# Altium schematic symbol library MY.SchLib: 184 symbols
Pins are listed as number, name and electrical type; pins without a type are passive.

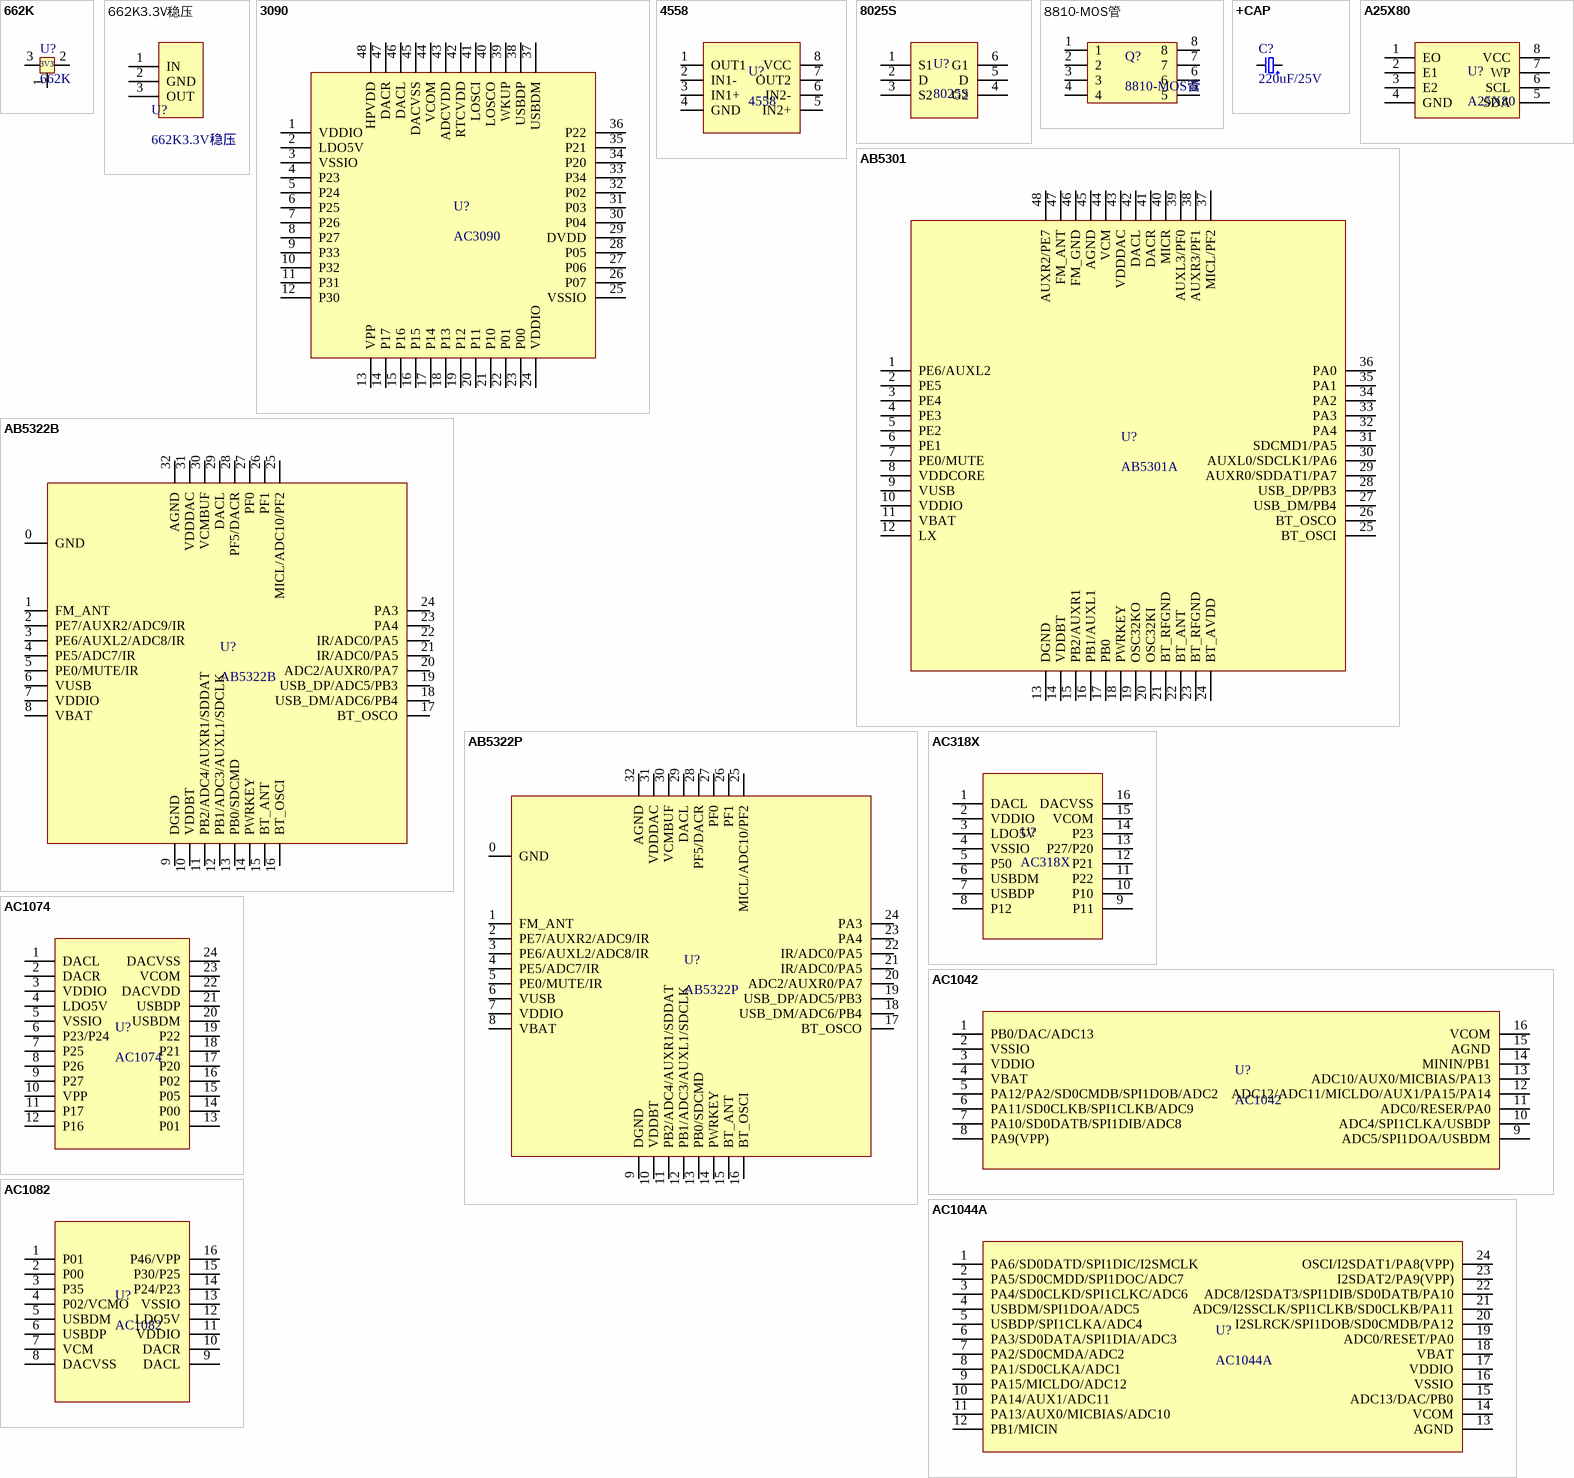
[diagram p0: symbols 662K to AC1082]

## 662K
designator U?
footprint SOT23
pins: 1, 2, 3
text: 3V3

## 662K3.3V稳压
designator U?
footprint SOT23
footprint SOT23
pins: 1 IN, 2 GND, 3 OUT

## 3090
designator U?, comment AC3090
footprint 3090
pins: 1 VDDIO, 2 LDO5V, 3 VSSIO, 4 P23, 5 P24, 6 P25, 7 P26, 8 P27, 9 P33, 10 P32, 11 P31, 12 P30, 13 VPP, 14 P17, 15 P16, 16 P15, 17 P14, 18 P13, 19 P12, 20 P11, 21 P10, 22 P01, 23 P00, 24 VDDIO, 25 VSSIO, 26 P07, 27 P06, 28 P05, 29 DVDD, 30 P04, 31 P03, 32 P02, 33 P34, 34 P20, 35 P21, 36 P22, 37 USBDM, 38 USBDP, 39 WKUP, 40 LOSCO, 41 LOSCI, 42 RTCVDD, 43 ADCVDD, 44 VCOM, 45 DACVSS, 46 DACL, 47 DACR, 48 HPVDD

## 4558
designator U?
footprint SOP8*5.588
footprint SOP8*6.725
footprint SOP8*5.588
pins: 1 OUT1, 2 IN1-, 3 IN1+, 4 GND, 5 IN2+, 6 IN2-, 7 OUT2, 8 VCC

## 8025S
designator U?
pins: 1 S1, 2 D, 3 S2, 4 G2, 5 D, 6 G1

## 8810-MOS管
designator Q?
pins: 1, 2, 3, 4, 5, 6, 7, 8

## +CAP
designator C?, comment 220uF/25V
footprint EC2.5-6.3
footprint EC2.5-6.3
footprint EC2.5-6.3
pins: 1, 2

## A25X80
designator U?
footprint A25X80
pins: 1 EO, 2 E1, 3 E2, 4 GND, 5 SDA, 6 SCL, 7 WP, 8 VCC

## AB5301
designator U?, comment AB5301A
footprint QFN48
pins: 1 PE6/AUXL2, 2 PE5, 3 PE4, 4 PE3, 5 PE2, 6 PE1, 7 PE0/MUTE, 8 VDDCORE, 9 VUSB, 10 VDDIO, 11 VBAT, 12 LX, 13 DGND, 14 VDDBT, 15 PB2/AUXR1, 16 PB1/AUXL1, 17 PB0, 18 PWRKEY, 19 OSC32KO, 20 OSC32KI, 21 BT_RFGND, 22 BT_ANT, 23 BT_RFGND, 24 BT_AVDD, 25 BT_OSCI, 26 BT_OSCO, 27 USB_DM/PB4, 28 USB_DP/PB3, 29 AUXR0/SDDAT1/PA7, 30 AUXL0/SDCLK1/PA6, 31 SDCMD1/PA5, 32 PA4, 33 PA3, 34 PA2, 35 PA1, 36 PA0, 37 MICL/PF2, 38 AUXR3/PF1, 39 AUXL3/PF0, 40 MICR, 41 DACR, 42 DACL, 43 VDDDAC, 44 VCM, 45 AGND, 46 FM_GND, 47 FM_ANT, 48 AUXR2/PE7

## AB5322B
designator U?
footprint QFN32
pins: 0 GND, 1 FM_ANT, 2 PE7/AUXR2/ADC9/IR, 3 PE6/AUXL2/ADC8/IR, 4 PE5/ADC7/IR, 5 PE0/MUTE/IR, 6 VUSB, 7 VDDIO, 8 VBAT, 9 DGND, 10 VDDBT, 11 PB2/ADC4/AUXR1/SDDAT, 12 PB1/ADC3/AUXL1/SDCLK, 13 PB0/SDCMD, 14 PWRKEY, 15 BT_ANT, 16 BT_OSCI, 17 BT_OSCO, 18 USB_DM/ADC6/PB4, 19 USB_DP/ADC5/PB3, 20 ADC2/AUXR0/PA7, 21 IR/ADC0/PA5, 22 IR/ADC0/PA5, 23 PA4, 24 PA3, 25 MICL/ADC10/PF2, 26 PF1, 27 PF0, 28 PF5/DACR, 29 DACL, 30 VCMBUF, 31 VDDDAC, 32 AGND

## AB5322P
designator U?
footprint QFN32
pins: 0 GND, 1 FM_ANT, 2 PE7/AUXR2/ADC9/IR, 3 PE6/AUXL2/ADC8/IR, 4 PE5/ADC7/IR, 5 PE0/MUTE/IR, 6 VUSB, 7 VDDIO, 8 VBAT, 9 DGND, 10 VDDBT, 11 PB2/ADC4/AUXR1/SDDAT, 12 PB1/ADC3/AUXL1/SDCLK, 13 PB0/SDCMD, 14 PWRKEY, 15 BT_ANT, 16 BT_OSCI, 17 BT_OSCO, 18 USB_DM/ADC6/PB4, 19 USB_DP/ADC5/PB3, 20 ADC2/AUXR0/PA7, 21 IR/ADC0/PA5, 22 IR/ADC0/PA5, 23 PA4, 24 PA3, 25 MICL/ADC10/PF2, 26 PF1, 27 PF0, 28 PF5/DACR, 29 DACL, 30 VCMBUF, 31 VDDDAC, 32 AGND

## AC318X
designator U?
footprint SOP16
pins: 1 DACL, 2 VDDIO, 3 LDO5V, 4 VSSIO, 5 P50, 6 USBDM, 7 USBDP, 8 P12, 9 P11, 10 P10, 11 P22, 12 P21, 13 P27/P20, 14 P23, 15 VCOM, 16 DACVSS

## AC1042
designator U?
footprint SOP16
pins: 1 PB0/DAC/ADC13, 2 VSSIO, 3 VDDIO, 4 VBAT, 5 PA12/PA2/SD0CMDB/SPI1DOB/ADC2, 6 PA11/SD0CLKB/SPI1CLKB/ADC9, 7 PA10/SD0DATB/SPI1DIB/ADC8, 8 PA9(VPP), 9 ADC5/SPI1DOA/USBDM, 10 ADC4/SPI1CLKA/USBDP, 11 ADC0/RESER/PA0, 12 ADC12/ADC11/MICLDO/AUX1/PA15/PA14, 13 ADC10/AUX0/MICBIAS/PA13, 14 MININ/PB1, 15 AGND, 16 VCOM

## AC1044A
designator U?
footprint SOP24
pins: 1 PA6/SD0DATD/SPI1DIC/I2SMCLK, 2 PA5/SD0CMDD/SPI1DOC/ADC7, 3 PA4/SD0CLKD/SPI1CLKC/ADC6, 4 USBDM/SPI1DOA/ADC5, 5 USBDP/SPI1CLKA/ADC4, 6 PA3/SD0DATA/SPI1DIA/ADC3, 7 PA2/SD0CMDA/ADC2, 8 PA1/SD0CLKA/ADC1, 9 PA15/MICLDO/ADC12, 10 PA14/AUX1/ADC11, 11 PA13/AUX0/MICBIAS/ADC10, 12 PB1/MICIN, 13 AGND, 14 VCOM, 15 ADC13/DAC/PB0, 16 VSSIO, 17 VDDIO, 18 VBAT, 19 ADC0/RESET/PA0, 20 I2SLRCK/SPI1DOB/SD0CMDB/PA12, 21 ADC9/I2SSCLK/SPI1CLKB/SD0CLKB/PA11, 22 ADC8/I2SDAT3/SPI1DIB/SD0DATB/PA10, 23 I2SDAT2/PA9(VPP), 24 OSCI/I2SDAT1/PA8(VPP)

## AC1074
designator U?
footprint SSOP24
pins: 1 DACL, 2 DACR, 3 VDDIO, 4 LDO5V, 5 VSSIO, 6 P23/P24, 7 P25, 8 P26, 9 P27, 10 VPP, 11 P17, 12 P16, 13 P01, 14 P00, 15 P05, 16 P02, 17 P20, 18 P21, 19 P22, 20 USBDM, 21 USBDP, 22 DACVDD, 23 VCOM, 24 DACVSS

## AC1082
designator U?
footprint SOP16
pins: 1 P01, 2 P00, 3 P35, 4 P02/VCMO, 5 USBDM, 6 USBDP, 7 VCM, 8 DACVSS, 9 DACL, 10 DACR, 11 VDDIO, 12 LDO5V, 13 VSSIO, 14 P24/P23, 15 P30/P25, 16 P46/VPP

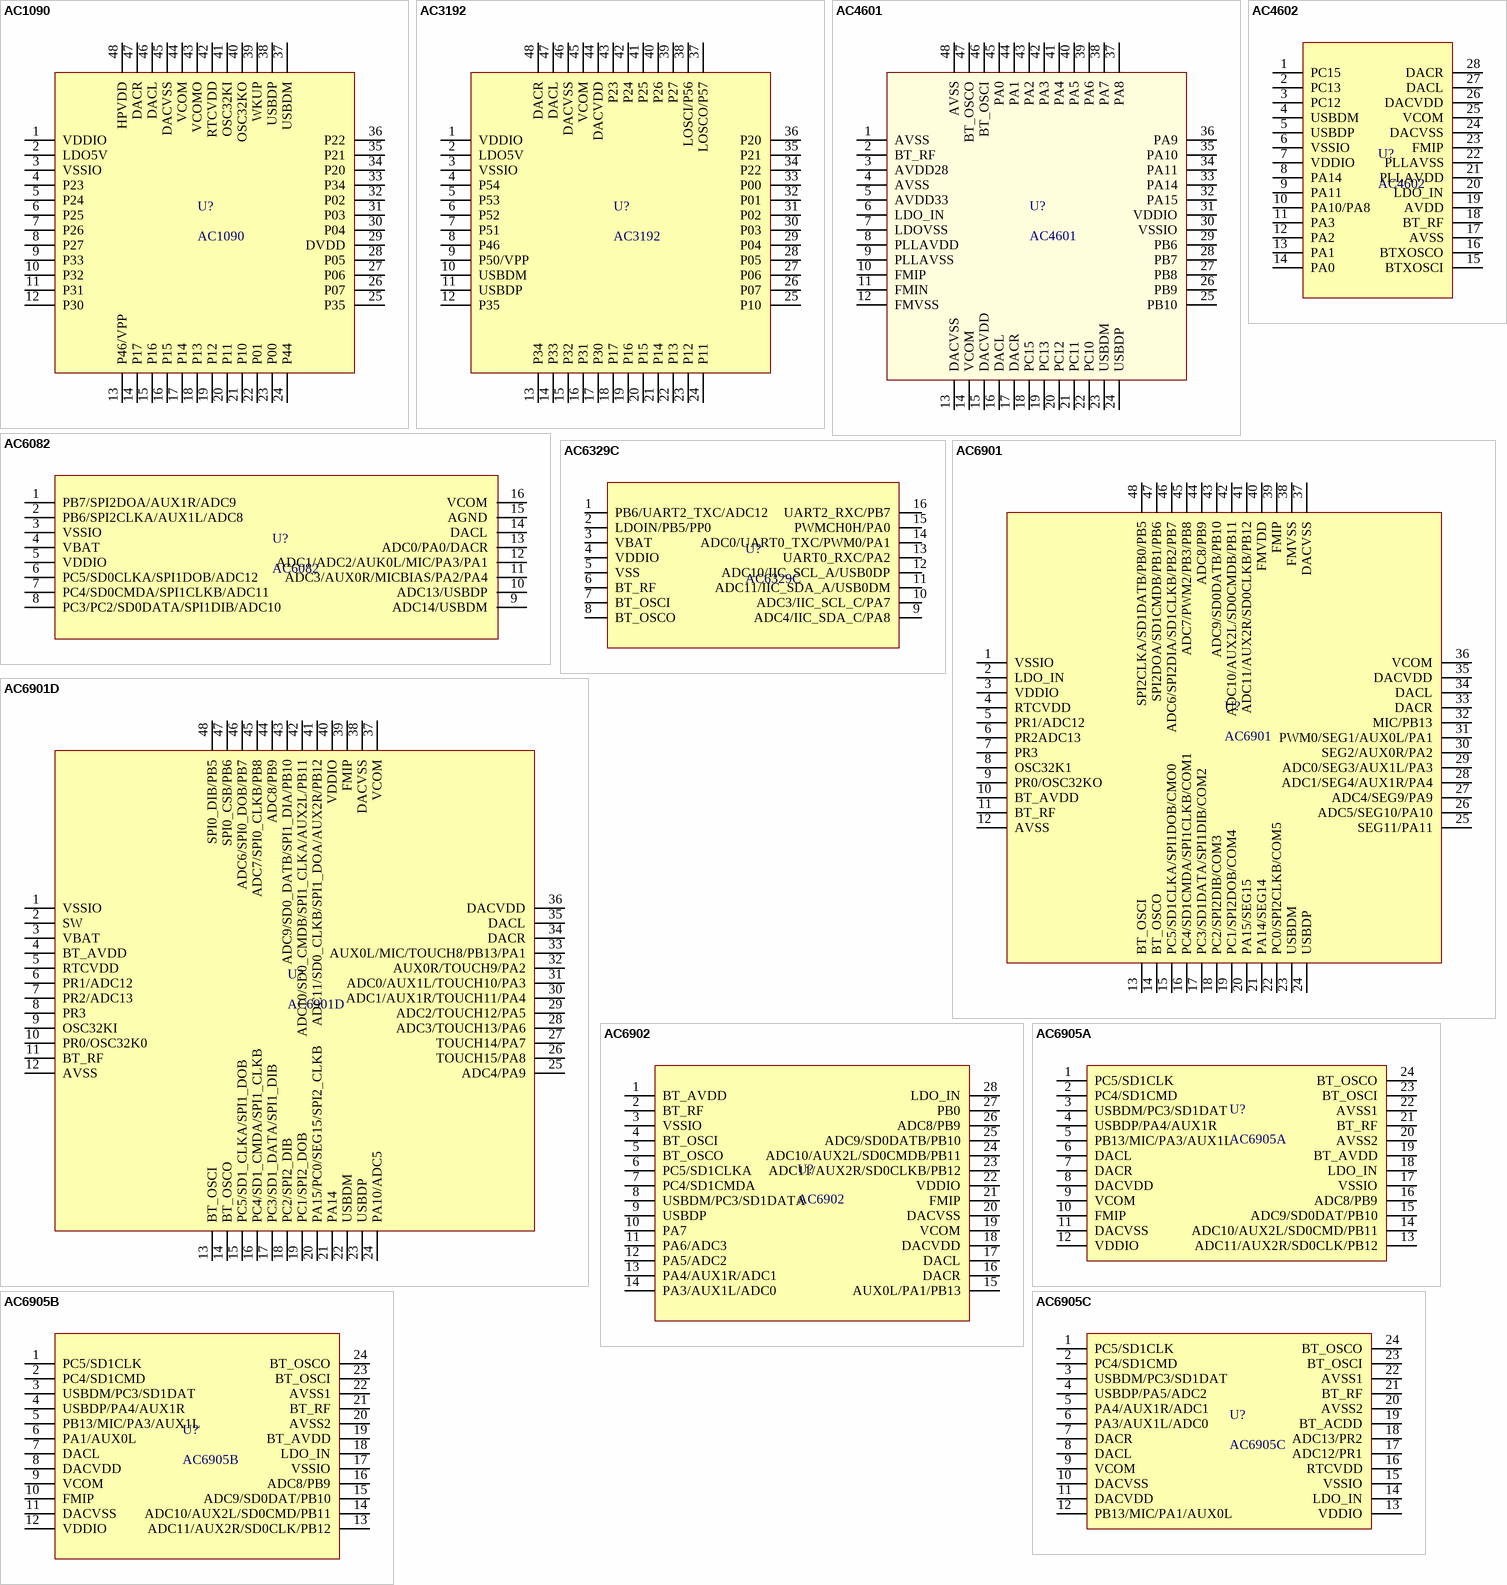
[diagram p1: symbols AC1090 to AC6905C]

## AC1090
designator U?
footprint QFN48
pins: 1 VDDIO, 2 LDO5V, 3 VSSIO, 4 P23, 5 P24, 6 P25, 7 P26, 8 P27, 9 P33, 10 P32, 11 P31, 12 P30, 13 P46/VPP, 14 P17, 15 P16, 16 P15, 17 P14, 18 P13, 19 P12, 20 P11, 21 P10, 22 P01, 23 P00, 24 P44, 25 P35, 26 P07, 27 P06, 28 P05, 29 DVDD, 30 P04, 31 P03, 32 P02, 33 P34, 34 P20, 35 P21, 36 P22, 37 USBDM, 38 USBDP, 39 WKUP, 40 OSC32KO, 41 OSC32KI, 42 RTCVDD, 43 VCOMO, 44 VCOM, 45 DACVSS, 46 DACL, 47 DACR, 48 HPVDD

## AC3192
designator U?
footprint QFN48
pins: 1 VDDIO, 2 LDO5V, 3 VSSIO, 4 P54, 5 P53, 6 P52, 7 P51, 8 P46, 9 P50/VPP, 10 USBDM, 11 USBDP, 12 P35, 13 P34, 14 P33, 15 P32, 16 P31, 17 P30, 18 P17, 19 P16, 20 P15, 21 P14, 22 P13, 23 P12, 24 P11, 25 P10, 26 P07, 27 P06, 28 P05, 29 P04, 30 P03, 31 P02, 32 P01, 33 P00, 34 P22, 35 P21, 36 P20, 37 LOSCO/P57, 38 LOSCI/P56, 39 P27, 40 P26, 41 P25, 42 P24, 43 P23, 44 DACVDD, 45 VCOM, 46 DACVSS, 47 DACL, 48 DACR

## AC4601
designator U?
footprint QFN48
footprint LQFP48
pins: 1 AVSS, 2 BT_RF, 3 AVDD28, 4 AVSS, 5 AVDD33, 6 LDO_IN, 7 LDOVSS, 8 PLLAVDD, 9 PLLAVSS, 10 FMIP, 11 FMIN, 12 FMVSS, 13 DACVSS, 14 VCOM, 15 DACVDD, 16 DACL, 17 DACR, 18 PC15, 19 PC13, 20 PC12, 21 PC11, 22 PC10, 23 USBDM, 24 USBDP, 25 PB10, 26 PB9, 27 PB8, 28 PB7, 29 PB6, 30 VSSIO, 31 VDDIO, 32 PA15, 33 PA14, 34 PA11, 35 PA10, 36 PA9, 37 PA8, 38 PA7, 39 PA6, 40 PA5, 41 PA4, 42 PA3, 43 PA2, 44 PA1, 45 PA0, 46 BT_OSCI, 47 BT_OSCO, 48 AVSS

## AC4602
designator U?
footprint SOP28
pins: 1 PC15, 2 PC13, 3 PC12, 4 USBDM, 5 USBDP, 6 VSSIO, 7 VDDIO, 8 PA14, 9 PA11, 10 PA10/PA8, 11 PA3, 12 PA2, 13 PA1, 14 PA0, 15 BTXOSCI, 16 BTXOSCO, 17 AVSS, 18 BT_RF, 19 AVDD, 20 LDO_IN, 21 PLLAVDD, 22 PLLAVSS, 23 FMIP, 24 DACVSS, 25 VCOM, 26 DACVDD, 27 DACL, 28 DACR

## AC6082
designator U?
footprint SOP16
pins: 1 PB7/SPI2DOA/AUX1R/ADC9, 2 PB6/SPI2CLKA/AUX1L/ADC8, 3 VSSIO, 4 VBAT, 5 VDDIO, 6 PC5/SD0CLKA/SPI1DOB/ADC12, 7 PC4/SD0CMDA/SPI1CLKB/ADC11, 8 PC3/PC2/SD0DATA/SPI1DIB/ADC10, 9 ADC14/USBDM, 10 ADC13/USBDP, 11 ADC3/AUX0R/MICBIAS/PA2/PA4, 12 ADC1/ADC2/AUK0L/MIC/PA3/PA1, 13 ADC0/PA0/DACR, 14 DACL, 15 AGND, 16 VCOM

## AC6329C
designator U?
footprint SOP16
pins: 1 PB6/UART2_TXC/ADC12, 2 LDOIN/PB5/PP0, 3 VBAT, 4 VDDIO, 5 VSS, 6 BT_RF, 7 BT_OSCI, 8 BT_OSCO, 9 ADC4/IIC_SDA_C/PA8, 10 ADC3/IIC_SCL_C/PA7, 11 ADC11/IIC_SDA_A/USB0DM, 12 ADC10/IIC_SCL_A/USB0DP, 13 UART0_RXC/PA2, 14 ADC0/UART0_TXC/PWM0/PA1, 15 PWMCH0H/PA0, 16 UART2_RXC/PB7

## AC6901
designator U?
footprint LQFP48
pins: 1 VSSIO, 2 LDO_IN, 3 VDDIO, 4 RTCVDD, 5 PR1/ADC12, 6 PR2ADC13, 7 PR3, 8 OSC32K1, 9 PR0/OSC32KO, 10 BT_AVDD, 11 BT_RF, 12 AVSS, 13 BT_OSCI, 14 BT_OSCO, 15 PC5/SD1CLKA/SPI1DOB/CMO0, 16 PC4/SD1CMDA/SPI1CLKB/COM1, 17 PC3/SD1DATA/SPI1DIB/COM2, 18 PC2/SPI2DIB/COM3, 19 PC1/SPI2DOB/COM4, 20 PA15/SEG15, 21 PA14/SEG14, 22 PC0/SPI2CLKB/COM5, 23 USBDM, 24 USBDP, 25 SEG11/PA11, 26 ADC5/SEG10/PA10, 27 ADC4/SEG9/PA9, 28 ADC1/SEG4/AUX1R/PA4, 29 ADC0/SEG3/AUX1L/PA3, 30 SEG2/AUX0R/PA2, 31 PWM0/SEG1/AUX0L/PA1, 32 MIC/PB13, 33 DACR, 34 DACL, 35 DACVDD, 36 VCOM, 37 DACVSS, 38 FMVSS, 39 FMIP, 40 FMVDD, 41 ADC11/AUX2R/SD0CLKB/PB12, 42 ADC10/AUX2L/SD0CMDB/PB11, 43 ADC9/SD0DATB/PB10, 44 ADC8/PB9, 45 ADC7/PWM2/PB3/PB8, 46 ADC6/SPI2DIA/SD1CLKB/PB2/PB7, 47 SPI2DOA/SD1CMDB/PB1/PB6, 48 SPI2CLKA/SD1DATB/PB0/PB5

## AC6901D
designator U?
footprint LQFP48
pins: 1 VSSIO, 2 SW, 3 VBAT, 4 BT_AVDD, 5 RTCVDD, 6 PR1/ADC12, 7 PR2/ADC13, 8 PR3, 9 OSC32KI, 10 PR0/OSC32K0, 11 BT_RF, 12 AVSS, 13 BT_OSCI, 14 BT_OSCO, 15 PC5/SD1_CLKA/SPI1_DOB, 16 PC4/SD1_CMDA/SPI1_CLKB, 17 PC3/SD1_DATA/SPI1_DIB, 18 PC2/SPI2_DIB, 19 PC1/SPI2_DOB, 20 PA15/PC0/SEG15/SPI2_CLKB, 21 PA14, 22 USBDM, 23 USBDP, 24 PA10/ADC5, 25 ADC4/PA9, 26 TOUCH15/PA8, 27 TOUCH14/PA7, 28 ADC3/TOUCH13/PA6, 29 ADC2/TOUCH12/PA5, 30 ADC1/AUX1R/TOUCH11/PA4, 31 ADC0/AUX1L/TOUCH10/PA3, 32 AUX0R/TOUCH9/PA2, 33 AUX0L/MIC/TOUCH8/PB13/PA1, 34 DACR, 35 DACL, 36 DACVDD, 37 VCOM, 38 DACVSS, 39 FMIP, 40 VDDIO, 41 ADC11/SD0_CLKB/SPI1_DOA/AUX2R/PB12, 42 ADC10/SD0_CMDB/SPI1_CLKA/AUX2L/PB11, 43 ADC9/SD0_DATB/SPI1_DIA/PB10, 44 ADC8/PB9, 45 ADC7/SPI0_CLKB/PB8, 46 ADC6/SPI0_DOB/PB7, 47 SPI0_CSB/PB6, 48 SPI0_DIB/PB5

## AC6902
designator U?
footprint SSOP28
footprint SOP28
pins: 1 BT_AVDD, 2 BT_RF, 3 VSSIO, 4 BT_OSCI, 5 BT_OSCO, 6 PC5/SD1CLKA, 7 PC4/SD1CMDA, 8 USBDM/PC3/SD1DATA, 9 USBDP, 10 PA7, 11 PA6/ADC3, 12 PA5/ADC2, 13 PA4/AUX1R/ADC1, 14 PA3/AUX1L/ADC0, 15 AUX0L/PA1/PB13, 16 DACR, 17 DACL, 18 DACVDD, 19 VCOM, 20 DACVSS, 21 FMIP, 22 VDDIO, 23 ADC11/AUX2R/SD0CLKB/PB12, 24 ADC10/AUX2L/SD0CMDB/PB11, 25 ADC9/SD0DATB/PB10, 26 ADC8/PB9, 27 PB0, 28 LDO_IN

## AC6905A
designator U?
pins: 1 PC5/SD1CLK, 2 PC4/SD1CMD, 3 USBDM/PC3/SD1DAT, 4 USBDP/PA4/AUX1R, 5 PB13/MIC/PA3/AUX1L, 6 DACL, 7 DACR, 8 DACVDD, 9 VCOM, 10 FMIP, 11 DACVSS, 12 VDDIO, 13 ADC11/AUX2R/SD0CLK/PB12, 14 ADC10/AUX2L/SD0CMD/PB11, 15 ADC9/SD0DAT/PB10, 16 ADC8/PB9, 17 VSSIO, 18 LDO_IN, 19 BT_AVDD, 20 AVSS2, 21 BT_RF, 22 AVSS1, 23 BT_OSCI, 24 BT_OSCO

## AC6905B
designator U?
footprint SOP24
pins: 1 PC5/SD1CLK, 2 PC4/SD1CMD, 3 USBDM/PC3/SD1DAT, 4 USBDP/PA4/AUX1R, 5 PB13/MIC/PA3/AUX1L, 6 PA1/AUX0L, 7 DACL, 8 DACVDD, 9 VCOM, 10 FMIP, 11 DACVSS, 12 VDDIO, 13 ADC11/AUX2R/SD0CLK/PB12, 14 ADC10/AUX2L/SD0CMD/PB11, 15 ADC9/SD0DAT/PB10, 16 ADC8/PB9, 17 VSSIO, 18 LDO_IN, 19 BT_AVDD, 20 AVSS2, 21 BT_RF, 22 AVSS1, 23 BT_OSCI, 24 BT_OSCO

## AC6905C
designator U?
footprint QSOP24
pins: 1 PC5/SD1CLK, 2 PC4/SD1CMD, 3 USBDM/PC3/SD1DAT, 4 USBDP/PA5/ADC2, 5 PA4/AUX1R/ADC1, 6 PA3/AUX1L/ADC0, 7 DACR, 8 DACL, 9 VCOM, 10 DACVSS, 11 DACVDD, 12 PB13/MIC/PA1/AUX0L, 13 VDDIO, 14 LDO_IN, 15 VSSIO, 16 RTCVDD, 17 ADC12/PR1, 18 ADC13/PR2, 19 BT_ACDD, 20 AVSS2, 21 BT_RF, 22 AVSS1, 23 BT_OSCI, 24 BT_OSCO

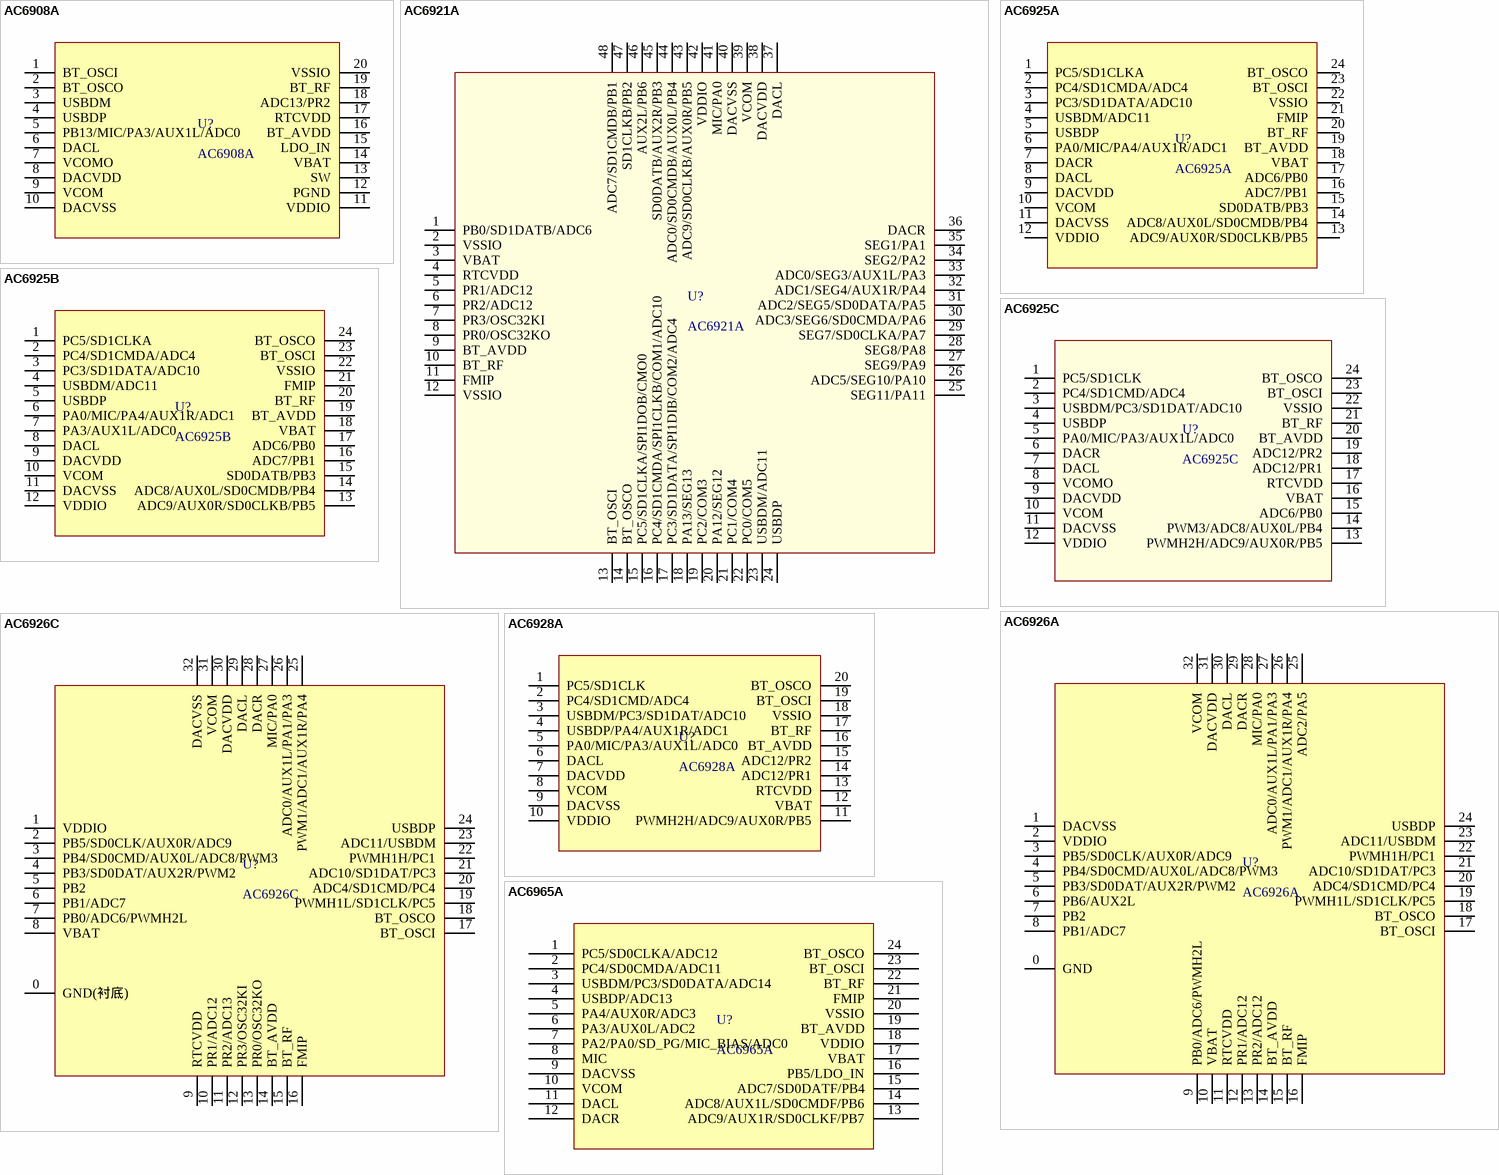
[diagram p2: symbols AC6908A to AC6965A]

## AC6908A
designator U?
footprint SOP20
pins: 1 BT_OSCI, 2 BT_OSCO, 3 USBDM, 4 USBDP, 5 PB13/MIC/PA3/AUX1L/ADC0, 6 DACL, 7 VCOMO, 8 DACVDD, 9 VCOM, 10 DACVSS, 11 VDDIO, 12 PGND, 13 SW, 14 VBAT, 15 LDO_IN, 16 BT_AVDD, 17 RTCVDD, 18 ADC13/PR2, 19 BT_RF, 20 VSSIO

## AC6921A
designator U?
footprint LQFP48
pins: 1 PB0/SD1DATB/ADC6, 2 VSSIO, 3 VBAT, 4 RTCVDD, 5 PR1/ADC12, 6 PR2/ADC12, 7 PR3/OSC32KI, 8 PR0/OSC32KO, 9 BT_AVDD, 10 BT_RF, 11 FMIP, 12 VSSIO, 13 BT_OSCI, 14 BT_OSCO, 15 PC5/SD1CLKA/SPI1DOB/CMO0, 16 PC4/SD1CMDA/SPI1CLKB/COM1/ADC10, 17 PC3/SD1DATA/SPI1DIB/COM2/ADC4, 18 PA13/SEG13, 19 PC2/COM3, 20 PA12/SEG12, 21 PC1/COM4, 22 PC0/COM5, 23 USBDM/ADC11, 24 USBDP, 25 SEG11/PA11, 26 ADC5/SEG10/PA10, 27 SEG9/PA9, 28 SEG8/PA8, 29 SEG7/SD0CLKA/PA7, 30 ADC3/SEG6/SD0CMDA/PA6, 31 ADC2/SEG5/SD0DATA/PA5, 32 ADC1/SEG4/AUX1R/PA4, 33 ADC0/SEG3/AUX1L/PA3, 34 SEG2/PA2, 35 SEG1/PA1, 36 DACR, 37 DACL, 38 DACVDD, 39 VCOM, 40 DACVSS, 41 MIC/PA0, 42 VDDIO, 43 ADC9/SD0CLKB/AUX0R/PB5, 44 ADC0/SD0CMDB/AUX0L/PB4, 45 SD0DATB/AUX2R/PB3, 46 AUX2L/PB6, 47 SD1CLKB/PB2, 48 ADC7/SD1CMDB/PB1

## AC6925A
designator U?
footprint SOP24
pins: 1 PC5/SD1CLKA, 2 PC4/SD1CMDA/ADC4, 3 PC3/SD1DATA/ADC10, 4 USBDM/ADC11, 5 USBDP, 6 PA0/MIC/PA4/AUX1R/ADC1, 7 DACR, 8 DACL, 9 DACVDD, 10 VCOM, 11 DACVSS, 12 VDDIO, 13 ADC9/AUX0R/SD0CLKB/PB5, 14 ADC8/AUX0L/SD0CMDB/PB4, 15 SD0DATB/PB3, 16 ADC7/PB1, 17 ADC6/PB0, 18 VBAT, 19 BT_AVDD, 20 BT_RF, 21 FMIP, 22 VSSIO, 23 BT_OSCI, 24 BT_OSCO

## AC6925B
designator U?
footprint SOP24
pins: 1 PC5/SD1CLKA, 2 PC4/SD1CMDA/ADC4, 3 PC3/SD1DATA/ADC10, 4 USBDM/ADC11, 5 USBDP, 6 PA0/MIC/PA4/AUX1R/ADC1, 7 PA3/AUX1L/ADC0, 8 DACL, 9 DACVDD, 10 VCOM, 11 DACVSS, 12 VDDIO, 13 ADC9/AUX0R/SD0CLKB/PB5, 14 ADC8/AUX0L/SD0CMDB/PB4, 15 SD0DATB/PB3, 16 ADC7/PB1, 17 ADC6/PB0, 18 VBAT, 19 BT_AVDD, 20 BT_RF, 21 FMIP, 22 VSSIO, 23 BT_OSCI, 24 BT_OSCO

## AC6925C
designator U?
footprint SOP24
pins: 1 PC5/SD1CLK, 2 PC4/SD1CMD/ADC4, 3 USBDM/PC3/SD1DAT/ADC10, 4 USBDP, 5 PA0/MIC/PA3/AUX1L/ADC0, 6 DACR, 7 DACL, 8 VCOMO, 9 DACVDD, 10 VCOM, 11 DACVSS, 12 VDDIO, 13 PWMH2H/ADC9/AUX0R/PB5, 14 PWM3/ADC8/AUX0L/PB4, 15 ADC6/PB0, 16 VBAT, 17 RTCVDD, 18 ADC12/PR1, 19 ADC12/PR2, 20 BT_AVDD, 21 BT_RF, 22 VSSIO, 23 BT_OSCI, 24 BT_OSCO

## AC6926A
designator U?
footprint QFN32
pins: 0 GND, 1 DACVSS, 2 VDDIO, 3 PB5/SD0CLK/AUX0R/ADC9, 4 PB4/SD0CMD/AUX0L/ADC8/PWM3, 5 PB3/SD0DAT/AUX2R/PWM2, 6 PB6/AUX2L, 7 PB2, 8 PB1/ADC7, 9 PB0/ADC6/PWMH2L, 10 VBAT, 11 RTCVDD, 12 PR1/ADC12, 13 PR2/ADC12, 14 BT_AVDD, 15 BT_RF, 16 FMIP, 17 BT_OSCI, 18 BT_OSCO, 19 PWMH1L/SD1CLK/PC5, 20 ADC4/SD1CMD/PC4, 21 ADC10/SD1DAT/PC3, 22 PWMH1H/PC1, 23 ADC11/USBDM, 24 USBDP, 25 ADC2/PA5, 26 PWM1/ADC1/AUX1R/PA4, 27 ADC0/AUX1L/PA1/PA3, 28 MIC/PA0, 29 DACR, 30 DACL, 31 DACVDD, 32 VCOM

## AC6926C
designator U?
footprint QFN32
pins: 0 GND(衬底), 1 VDDIO, 2 PB5/SD0CLK/AUX0R/ADC9, 3 PB4/SD0CMD/AUX0L/ADC8/PWM3, 4 PB3/SD0DAT/AUX2R/PWM2, 5 PB2, 6 PB1/ADC7, 7 PB0/ADC6/PWMH2L, 8 VBAT, 9 RTCVDD, 10 PR1/ADC12, 11 PR2/ADC13, 12 PR3/OSC32KI, 13 PR0/OSC32KO, 14 BT_AVDD, 15 BT_RF, 16 FMIP, 17 BT_OSCI, 18 BT_OSCO, 19 PWMH1L/SD1CLK/PC5, 20 ADC4/SD1CMD/PC4, 21 ADC10/SD1DAT/PC3, 22 PWMH1H/PC1, 23 ADC11/USBDM, 24 USBDP, 25 PWM1/ADC1/AUX1R/PA4, 26 ADC0/AUX1L/PA1/PA3, 27 MIC/PA0, 28 DACR, 29 DACL, 30 DACVDD, 31 VCOM, 32 DACVSS

## AC6928A
designator U?
footprint SOP20
pins: 1 PC5/SD1CLK, 2 PC4/SD1CMD/ADC4, 3 USBDM/PC3/SD1DAT/ADC10, 4 USBDP/PA4/AUX1R/ADC1, 5 PA0/MIC/PA3/AUX1L/ADC0, 6 DACL, 7 DACVDD, 8 VCOM, 9 DACVSS, 10 VDDIO, 11 PWMH2H/ADC9/AUX0R/PB5, 12 VBAT, 13 RTCVDD, 14 ADC12/PR1, 15 ADC12/PR2, 16 BT_AVDD, 17 BT_RF, 18 VSSIO, 19 BT_OSCI, 20 BT_OSCO

## AC6965A
designator U?
footprint SOP24
pins: 1 PC5/SD0CLKA/ADC12, 2 PC4/SD0CMDA/ADC11, 3 USBDM/PC3/SD0DATA/ADC14, 4 USBDP/ADC13, 5 PA4/AUX0R/ADC3, 6 PA3/AUX0L/ADC2, 7 PA2/PA0/SD_PG/MIC_BIAS/ADC0, 8 MIC, 9 DACVSS, 10 VCOM, 11 DACL, 12 DACR, 13 ADC9/AUX1R/SD0CLKF/PB7, 14 ADC8/AUX1L/SD0CMDF/PB6, 15 ADC7/SD0DATF/PB4, 16 PB5/LDO_IN, 17 VBAT, 18 VDDIO, 19 BT_AVDD, 20 VSSIO, 21 FMIP, 22 BT_RF, 23 BT_OSCI, 24 BT_OSCO

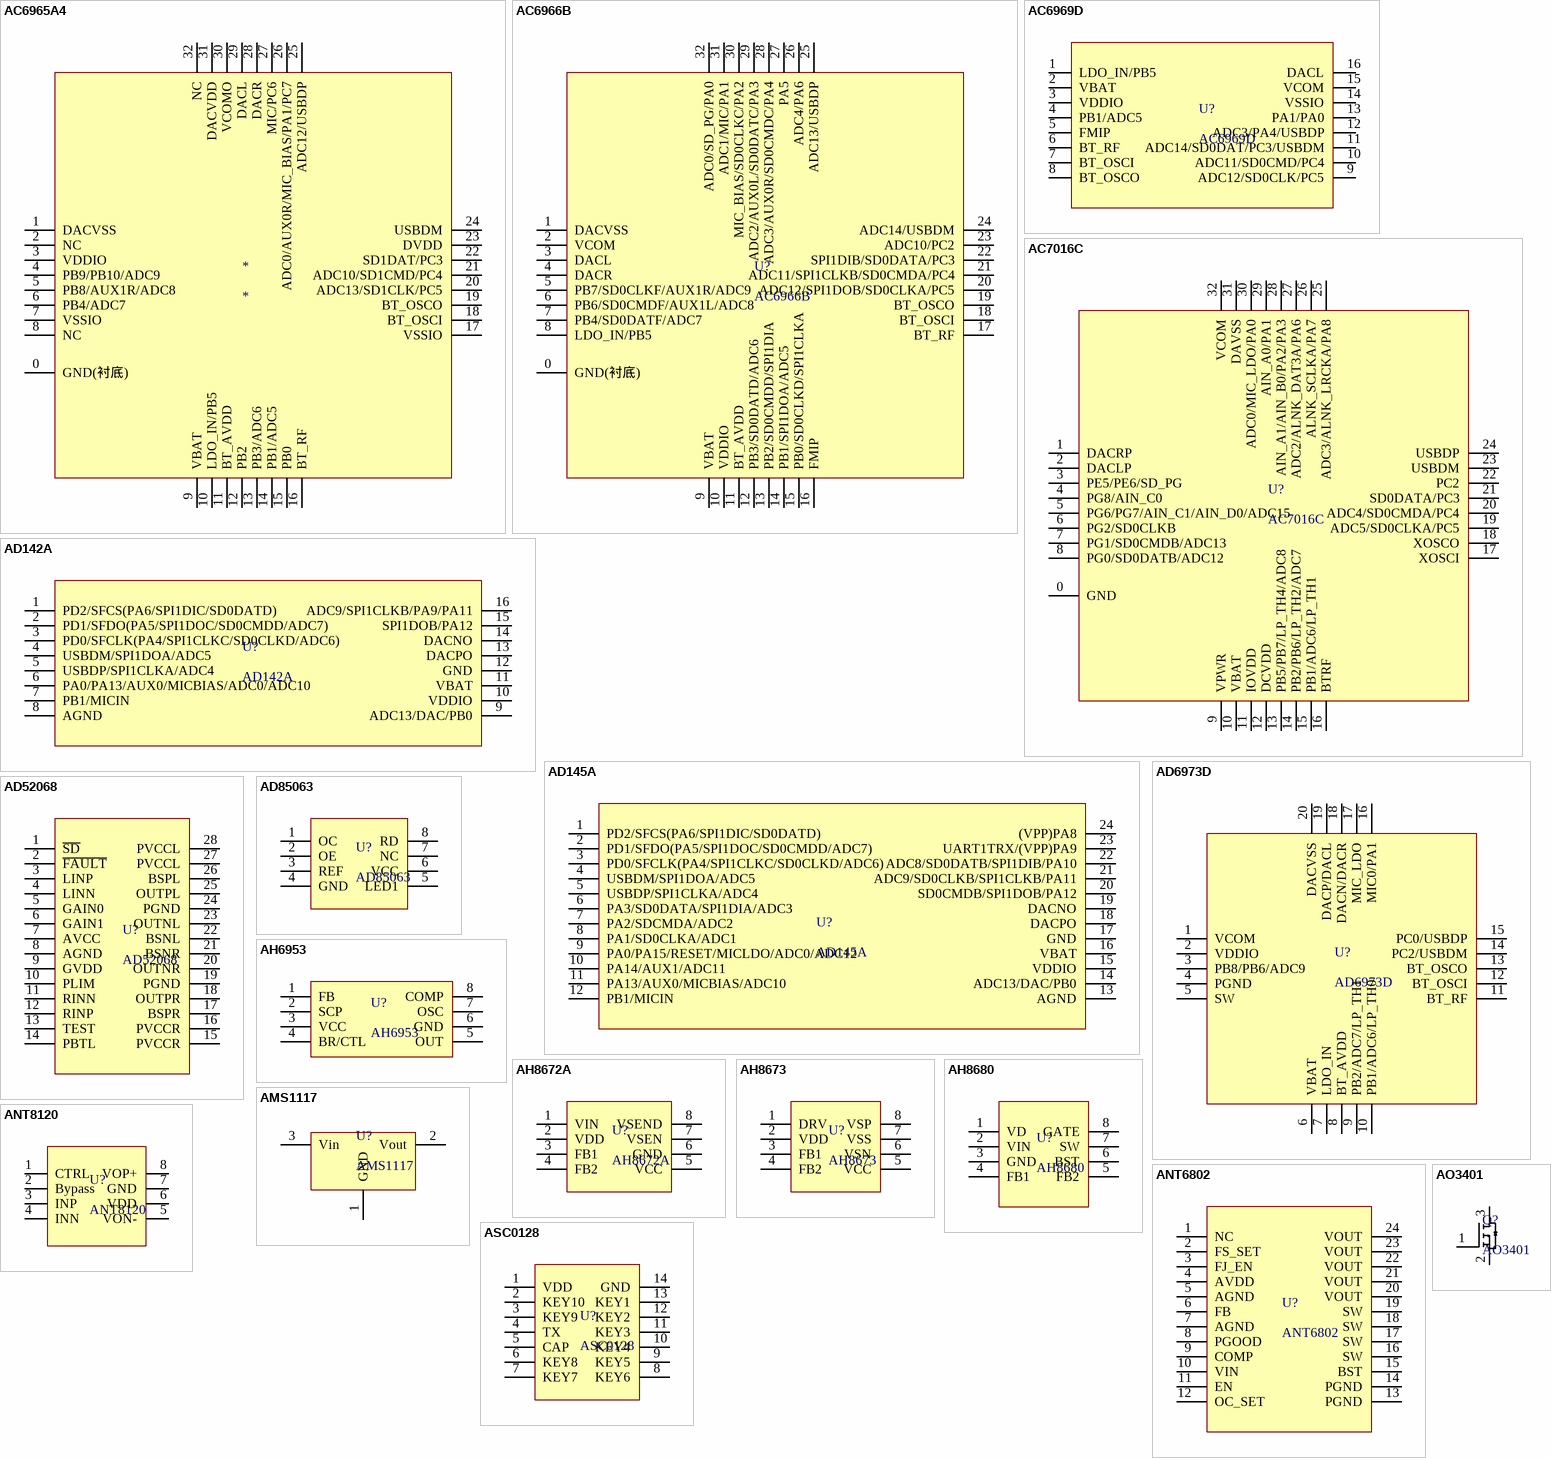
[diagram p3: symbols AC6965A4 to ASC0128]

## AC6965A4
designator *
pins: 0 GND(衬底), 1 DACVSS, 2 NC, 3 VDDIO, 4 PB9/PB10/ADC9, 5 PB8/AUX1R/ADC8, 6 PB4/ADC7, 7 VSSIO, 8 NC, 9 VBAT, 10 LDO_IN/PB5, 11 BT_AVDD, 12 PB2, 13 PB3/ADC6, 14 PB1/ADC5, 15 PB0, 16 BT_RF, 17 VSSIO, 18 BT_OSCI, 19 BT_OSCO, 20 ADC13/SD1CLK/PC5, 21 ADC10/SD1CMD/PC4, 22 SD1DAT/PC3, 23 DVDD, 24 USBDM, 25 ADC12/USBDP, 26 ADC0/AUX0R/MIC_BIAS/PA1/PC7, 27 MIC/PC6, 28 DACR, 29 DACL, 30 VCOMO, 31 DACVDD, 32 NC

## AC6966B
designator U?
footprint QFN32
pins: 0 GND(衬底), 1 DACVSS, 2 VCOM, 3 DACL, 4 DACR, 5 PB7/SD0CLKF/AUX1R/ADC9, 6 PB6/SD0CMDF/AUX1L/ADC8, 7 PB4/SD0DATF/ADC7, 8 LDO_IN/PB5, 9 VBAT, 10 VDDIO, 11 BT_AVDD, 12 PB3/SD0DATD/ADC6, 13 PB2/SD0CMDD/SPI1DIA, 14 PB1/SPI1DOA/ADC5, 15 PB0/SD0CLKD/SPI1CLKA, 16 FMIP, 17 BT_RF, 18 BT_OSCI, 19 BT_OSCO, 20 ADC12/SPI1DOB/SD0CLKA/PC5, 21 ADC11/SPI1CLKB/SD0CMDA/PC4, 22 SPI1DIB/SD0DATA/PC3, 23 ADC10/PC2, 24 ADC14/USBDM, 25 ADC13/USBDP, 26 ADC4/PA6, 27 PA5, 28 ADC3/AUX0R/SD0CMDC/PA4, 29 ADC2/AUX0L/SD0DATC/PA3, 30 MIC_BIAS/SD0CLKC/PA2, 31 ADC1/MIC/PA1, 32 ADC0/SD_PG/PA0

## AC6969D
designator U?
footprint SOP16
pins: 1 LDO_IN/PB5, 2 VBAT, 3 VDDIO, 4 PB1/ADC5, 5 FMIP, 6 BT_RF, 7 BT_OSCI, 8 BT_OSCO, 9 ADC12/SD0CLK/PC5, 10 ADC11/SD0CMD/PC4, 11 ADC14/SD0DAT/PC3/USBDM, 12 ADC3/PA4/USBDP, 13 PA1/PA0, 14 VSSIO, 15 VCOM, 16 DACL

## AC7016C
designator U?
footprint QFN32
pins: 0 GND, 1 DACRP, 2 DACLP, 3 PE5/PE6/SD_PG, 4 PG8/AIN_C0, 5 PG6/PG7/AIN_C1/AIN_D0/ADC15, 6 PG2/SD0CLKB, 7 PG1/SD0CMDB/ADC13, 8 PG0/SD0DATB/ADC12, 9 VPWR, 10 VBAT, 11 IOVDD, 12 DCVDD, 13 PB5/PB7/LP_TH4/ADC8, 14 PB2/PB6/LP_TH2/ADC7, 15 PB1/ADC6/LP_TH1, 16 BTRF, 17 XOSCI, 18 XOSCO, 19 ADC5/SD0CLKA/PC5, 20 ADC4/SD0CMDA/PC4, 21 SD0DATA/PC3, 22 PC2, 23 USBDM, 24 USBDP, 25 ADC3/ALNK_LRCKA/PA8, 26 ALNK_SCLKA/PA7, 27 ADC2/ALNK_DAT3A/PA6, 28 AIN_A1/AIN_B0/PA2/PA3, 29 AIN_A0/PA1, 30 ADC0/MIC_LDO/PA0, 31 DAVSS, 32 VCOM

## AD142A
designator U?
footprint SOP16
pins: 1 PD2/SFCS(PA6/SPI1DIC/SD0DATD), 2 PD1/SFDO(PA5/SPI1DOC/SD0CMDD/ADC7), 3 PD0/SFCLK(PA4/SPI1CLKC/SD0CLKD/ADC6), 4 USBDM/SPI1DOA/ADC5, 5 USBDP/SPI1CLKA/ADC4, 6 PA0/PA13/AUX0/MICBIAS/ADC0/ADC10, 7 PB1/MICIN, 8 AGND, 9 ADC13/DAC/PB0, 10 VDDIO, 11 VBAT, 12 GND, 13 DACPO, 14 DACNO, 15 SPI1DOB/PA12, 16 ADC9/SPI1CLKB/PA9/PA11

## AD145A
designator U?
footprint SOP24
pins: 1 PD2/SFCS(PA6/SPI1DIC/SD0DATD), 2 PD1/SFDO(PA5/SPI1DOC/SD0CMDD/ADC7), 3 PD0/SFCLK(PA4/SPI1CLKC/SD0CLKD/ADC6), 4 USBDM/SPI1DOA/ADC5, 5 USBDP/SPI1CLKA/ADC4, 6 PA3/SD0DATA/SPI1DIA/ADC3, 7 PA2/SDCMDA/ADC2, 8 PA1/SD0CLKA/ADC1, 9 PA0/PA15/RESET/MICLDO/ADC0/ADC12, 10 PA14/AUX1/ADC11, 11 PA13/AUX0/MICBIAS/ADC10, 12 PB1/MICIN, 13 AGND, 14 ADC13/DAC/PB0, 15 VDDIO, 16 VBAT, 17 GND, 18 DACPO, 19 DACNO, 20 SD0CMDB/SPI1DOB/PA12, 21 ADC9/SD0CLKB/SPI1CLKB/PA11, 22 ADC8/SD0DATB/SPI1DIB/PA10, 23 UART1TRX/(VPP)PA9, 24 (VPP)PA8

## AD6973D
designator U?
pins: 1 VCOM, 2 VDDIO, 3 PB8/PB6/ADC9, 4 PGND, 5 SW, 6 VBAT, 7 LDO_IN, 8 BT_AVDD, 9 PB2/ADC7/LP_TH1, 10 PB1/ADC6/LP_TH0, 11 BT_RF, 12 BT_OSCI, 13 BT_OSCO, 14 PC2/USBDM, 15 PC0/USBDP, 16 MIC0/PA1, 17 MIC_LDO, 18 DACN/DACR, 19 DACP/DACL, 20 DACVSS

## AD52068
designator U?
pins: 1 ~{SD}, 2 ~{FAULT}, 3 LINP, 4 LINN, 5 GAIN0, 6 GAIN1, 7 AVCC, 8 AGND, 9 GVDD, 10 PLIM, 11 RINN, 12 RINP, 13 TEST, 14 PBTL, 15 PVCCR, 16 PVCCR, 17 BSPR, 18 OUTPR, 19 PGND, 20 OUTNR, 21 BSNR, 22 BSNL, 23 OUTNL, 24 PGND, 25 OUTPL, 26 BSPL, 27 PVCCL, 28 PVCCL

## AD85063
designator U?
footprint SOP8*6.725
footprint SOP8*5.588
pins: 1 OC, 2 OE, 3 REF, 4 GND, 5 LED1, 6 VCC, 7 NC, 8 RD

## AH6953
designator U?
footprint SOP-8I
pins: 1 FB, 2 SCP, 3 VCC, 4 BR/CTL, 5 OUT, 6 GND, 7 OSC, 8 COMP

## AH8672A
designator U?
footprint SOP8-EP
pins: 1 VIN, 2 VDD, 3 FB1, 4 FB2, 5 VCC, 6 GND, 7 VSEN, 8 VSEND

## AH8673
designator U?
footprint SOP8*5.588
pins: 1 DRV, 2 VDD, 3 FB1, 4 FB2, 5 VCC, 6 VSN, 7 VSS, 8 VSP

## AH8680
designator U?
footprint SOP8-EP
pins: 1 VD, 2 VIN, 3 GND, 4 FB1, 5 FB2, 6 BST, 7 SW, 8 GATE

## AMS1117
designator U?
footprint AMS1117
footprint SOT-223
pins: 1 GND, 2 Vout, 3 Vin

## ANT6802
designator U?
footprint SOP24
pins: 1 NC, 2 FS_SET, 3 FJ_EN, 4 AVDD, 5 AGND, 6 FB, 7 AGND, 8 PGOOD, 9 COMP, 10 VIN, 11 EN, 12 OC_SET, 13 PGND, 14 PGND, 15 BST, 16 SW, 17 SW, 18 SW, 19 SW, 20 VOUT, 21 VOUT, 22 VOUT, 23 VOUT, 24 VOUT

## ANT8120
designator U?
footprint SOP8-EP
pins: 1 CTRL, 2 Bypass, 3 INP, 4 INN, 5 VON-, 6 VDD, 7 GND, 8 VOP+

## AO3401
designator Q?
footprint SOT23
pins: 1 G, 2 S, 3 D

## ASC0128
designator U?
footprint SOP14
pins: 1 VDD, 2 KEY10, 3 KEY9, 4 TX, 5 CAP, 6 KEY8, 7 KEY7, 8 KEY6, 9 KEY5, 10 KEY4, 11 KEY3, 12 KEY2, 13 KEY1, 14 GND

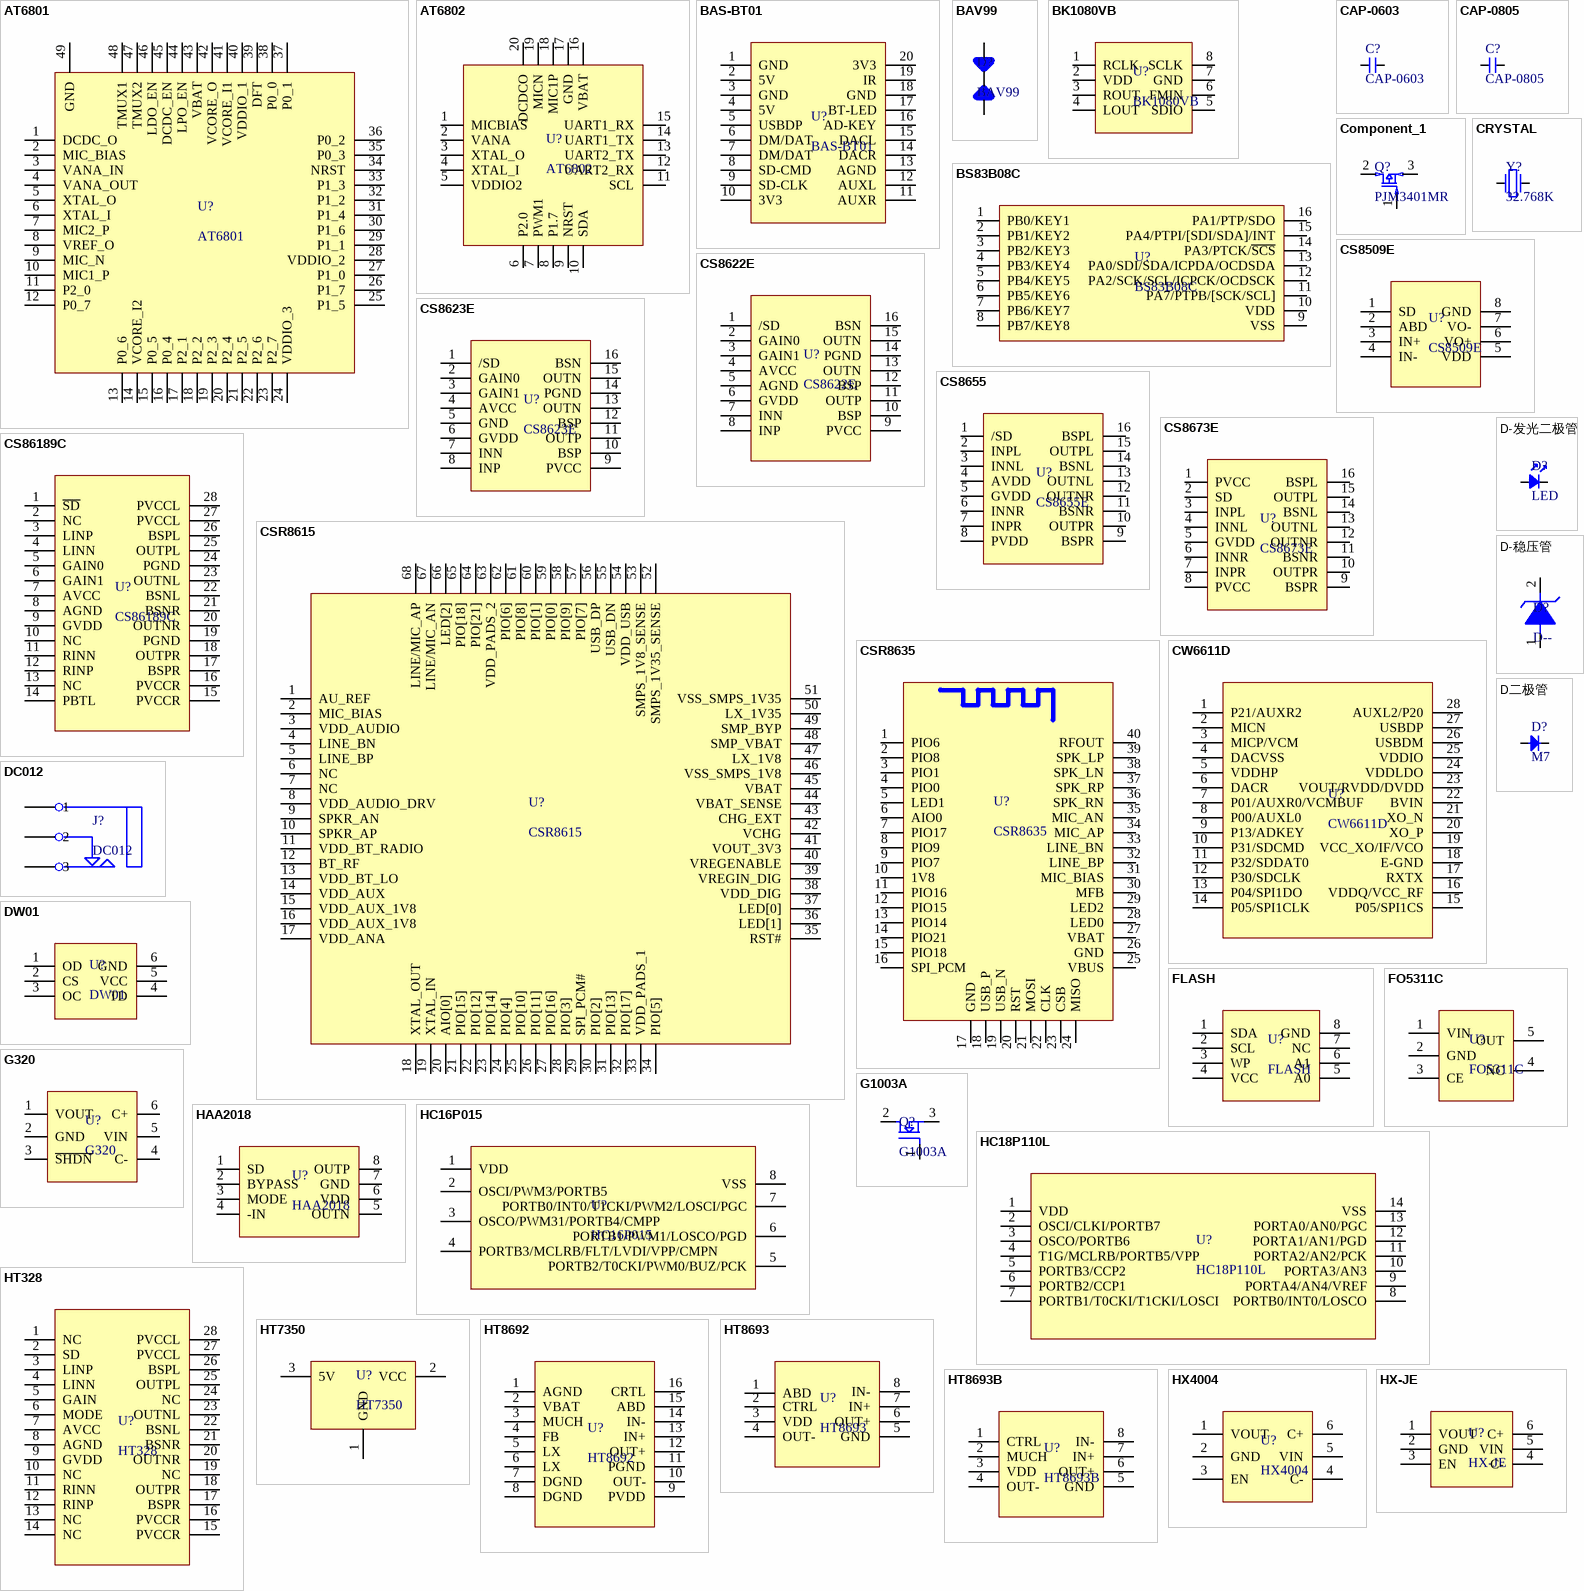
[diagram p4: symbols AT6801 to HX-JE]

## AT6801
designator U?
footprint QFN48
pins: 1 DCDC_O, 2 MIC_BIAS, 3 VANA_IN, 4 VANA_OUT, 5 XTAL_O, 6 XTAL_I, 7 MIC2_P, 8 VREF_O, 9 MIC_N, 10 MIC1_P, 11 P2_0, 12 P0_7, 13 P0_6, 14 VCORE_I2, 15 P0_5, 16 P0_4, 17 P2_1, 18 P2_2, 19 P2_3, 20 P2_4, 21 P2_5, 22 P2_6, 23 P2_7, 24 VDDIO_3, 25 P1_5, 26 P1_7, 27 P1_0, 28 VDDIO_2, 29 P1_1, 30 P1_6, 31 P1_4, 32 P1_2, 33 P1_3, 34 NRST, 35 P0_3, 36 P0_2, 37 P0_1, 38 P0_0, 39 DFT, 40 VDDIO_1, 41 VCORE_I1, 42 VCORE_O, 43 VBAT, 44 LPO_EN, 45 DCDC_EN, 46 LDO_EN, 47 TMUX2, 48 TMUX1, 49 GND

## AT6802
designator U?
pins: 1 MICBIAS, 2 VANA, 3 XTAL_O, 4 XTAL_I, 5 VDDIO2, 6 P2.0, 7 PWM1, 8 P1.7, 9 NRST, 10 SDA, 11 SCL, 12 UART2_RX, 13 UART2_TX, 14 UART1_TX, 15 UART1_RX, 16 VBAT, 17 GND, 18 MIC1P, 19 MICN, 20 DCDCO

## BAS-BT01
designator U?
footprint BAS-BT01
pins: 1 GND, 2 5V, 3 GND, 4 5V, 5 USBDP, 6 DM/DAT, 7 DM/DAT, 8 SD-CMD, 9 SD-CLK, 10 3V3, 11 AUXR, 12 AUXL, 13 AGND, 14 DACR, 15 DACL, 16 AD-KEY, 17 BT-LED, 18 GND, 19 IR, 20 3V3

## BAV99
designator D?
footprint SOT23
pins: 1, 2, 3, 3

## BK1080VB
designator U?
footprint SOP8*5.588
pins: 1 RCLK, 2 VDD, 3 ROUT, 4 LOUT, 5 SDIO, 6 FMIN, 7 GND, 8 SCLK

## BS83B08C
designator U?
footprint SOP16
pins: 1 PB0/KEY1, 2 PB1/KEY2, 3 PB2/KEY3, 4 PB3/KEY4, 5 PB4/KEY5, 6 PB5/KEY6, 7 PB6/KEY7, 8 PB7/KEY8, 9 VSS, 10 VDD, 11 PA7/PTPB/[SCK/SCL], 12 PA2/SCK/SCL/ICPCK/OCDSCK, 13 PA0/SDI/SDA/ICPDA/OCDSDA, 14 PA3/PTCK/~{SCS}, 15 PA4/PTPI/[SDI/SDA]/INT, 16 PA1/PTP/SDO

## CAP-0603
designator C?
footprint C0603
pins: 1, 2

## CAP-0805
designator C?
footprint C0805
pins: 1, 2

## Component_1
designator Q?, comment PJM3401MR
footprint SOT-23
pins: 1, 2, 3

## CRYSTAL
designator Y?, comment 32.768K
footprint Y1
pins: 1, 2

## CS8509E
designator U?
footprint SOP8-EP
pins: 1 SD, 2 ABD, 3 IN+, 4 IN-, 5 VDD, 6 VO+, 7 VO-, 8 GND

## CS8622E
designator U?
footprint SOP16
pins: 1 /SD, 2 GAIN0, 3 GAIN1, 4 AVCC, 5 AGND, 6 GVDD, 7 INN, 8 INP, 9 PVCC, 10 BSP, 11 OUTP, 12 BSP, 13 OUTN, 14 PGND, 15 OUTN, 16 BSN

## CS8623E
designator U?
footprint SOP16-EP
pins: 1 /SD, 2 GAIN0, 3 GAIN1, 4 AVCC, 5 GND, 6 GVDD, 7 INN, 8 INP, 9 PVCC, 10 BSP, 11 OUTP, 12 BSP, 13 OUTN, 14 PGND, 15 OUTN, 16 BSN

## CS8655
designator U?, comment CS8655E
footprint SOP16-EP
pins: 1 /SD, 2 INPL, 3 INNL, 4 AVDD, 5 GVDD, 6 INNR, 7 INPR, 8 PVDD, 9 BSPR, 10 OUTPR, 11 BSNR, 12 OUTNR, 13 OUTNL, 14 BSNL, 15 OUTPL, 16 BSPL

## CS8673E
designator U?
footprint SOP16-EP
pins: 1 PVCC, 2 SD, 3 INPL, 4 INNL, 5 GVDD, 6 INNR, 7 INPR, 8 PVCC, 9 BSPR, 10 OUTPR, 11 BSNR, 12 OUTNR, 13 OUTNL, 14 BSNL, 15 OUTPL, 16 BSPL

## CS86189C
designator U?
footprint SOP24
footprint SOP28
pins: 1 ~{SD}, 2 NC, 3 LINP, 4 LINN, 5 GAIN0, 6 GAIN1, 7 AVCC, 8 AGND, 9 GVDD, 10 NC, 11 RINN, 12 RINP, 13 NC, 14 PBTL, 15 PVCCR, 16 PVCCR, 17 BSPR, 18 OUTPR, 19 PGND, 20 OUTNR, 21 BSNR, 22 BSNL, 23 OUTNL, 24 PGND, 25 OUTPL, 26 BSPL, 27 PVCCL, 28 PVCCL

## CSR8615
designator U?
footprint QFN68
pins: 1 AU_REF, 2 MIC_BIAS, 3 VDD_AUDIO, 4 LINE_BN, 5 LINE_BP, 6 NC, 7 NC, 8 VDD_AUDIO_DRV, 9 SPKR_AN, 10 SPKR_AP, 11 VDD_BT_RADIO, 12 BT_RF, 13 VDD_BT_LO, 14 VDD_AUX, 15 VDD_AUX_1V8, 16 VDD_AUX_1V8, 17 VDD_ANA, 18 XTAL_OUT, 19 XTAL_IN, 20 AIO[0], 21 PIO[15], 22 PIO[12], 23 PIO[14], 24 PIO[4], 25 PIO[10], 26 PIO[11], 27 PIO[16], 28 PIO[3], 29 SPI_PCM#, 30 PIO[2], 31 PIO[13], 32 PIO[17], 33 VDD_PADS_1, 34 PIO[5], 35 RST#, 36 LED[1], 37 LED[0], 38 VDD_DIG, 39 VREGIN_DIG, 40 VREGENABLE, 41 VOUT_3V3, 42 VCHG, 43 CHG_EXT, 44 VBAT_SENSE, 45 VBAT, 46 VSS_SMPS_1V8, 47 LX_1V8, 48 SMP_VBAT, 49 SMP_BYP, 50 LX_1V35, 51 VSS_SMPS_1V35, 52 SMPS_1V35_SENSE, 53 SMPS_1V8_SENSE, 54 VDD_USB, 55 USB_DN, 56 USB_DP, 57 PIO[7], 58 PIO[9], 59 PIO[0], 60 PIO[1], 61 PIO[8], 62 PIO[6], 63 VDD_PADS_2, 64 PIO[21], 65 PIO[18], 66 LED[2], 67 LINE/MIC_AN, 68 LINE/MIC_AP

## CSR8635
designator U?
footprint CSR8635
pins: 1 PIO6, 2 PIO8, 3 PIO1, 4 PIO0, 5 LED1, 6 AIO0, 7 PIO17, 8 PIO9, 9 PIO7, 10 1V8, 11 PIO16, 12 PIO15, 13 PIO14, 14 PIO21, 15 PIO18, 16 SPI_PCM, 17 GND, 18 USB_P, 19 USB_N, 20 RST, 21 MOSI, 22 CLK, 23 CSB, 24 MISO, 25 VBUS, 26 GND, 27 VBAT, 28 LED0, 29 LED2, 30 MFB, 31 MIC_BIAS, 32 LINE_BP, 33 LINE_BN, 34 MIC_AP, 35 MIC_AN, 36 SPK_RN, 37 SPK_RP, 38 SPK_LN, 39 SPK_LP, 40 RFOUT

## CW6611D
designator U?
footprint sop28
footprint SOP28
pins: 1 P21/AUXR2, 2 MICN, 3 MICP/VCM, 4 DACVSS, 5 VDDHP, 6 DACR, 7 P01/AUXR0/VCMBUF, 8 P00/AUXL0, 9 P13/ADKEY, 10 P31/SDCMD, 11 P32/SDDAT0, 12 P30/SDCLK, 13 P04/SPI1DO, 14 P05/SPI1CLK, 15 P05/SPI1CS, 16 VDDQ/VCC_RF, 17 RXTX, 18 E-GND, 19 VCC_XO/IF/VCO, 20 XO_P, 21 XO_N, 22 BVIN, 23 VOUT/RVDD/DVDD, 24 VDDLDO, 25 VDDIO, 26 USBDM, 27 USBDP, 28 AUXL2/P20

## D-发光二极管
designator D?, comment LED
footprint LED-2X2.54
pins: 1, 2

## D-稳压管
designator D?, comment D--
pins: 1, 2

## DC012
designator J?
pins: 1, 2, 3

## DW01
designator U?
pins: 1 OD, 2 CS, 3 OC, 4 TD, 5 VCC, 6 GND

## D二极管
designator D?, comment M7
footprint M7
footprint LL-34
footprint SMA
pins: 1, 2

## FLASH
designator U?
pins: 1 SDA, 2 SCL, 3 WP, 4 VCC, 5 A0, 6 A1, 7 NC, 8 GND

## FO5311C
designator U?
pins: 1 VIN, 2 GND, 3 CE, 4 NC, 5 OUT

## G320
designator U?
footprint SOT-6
pins: 1 VOUT, 2 GND, 3 ~{SHDN}, 4 C-, 5 VIN, 6 C+

## G1003A
designator Q?
footprint TO-252-2L
pins: 1, 2, 3

## HAA2018
designator U?
footprint SOP8-EP
pins: 1 SD, 2 BYPASS, 3 MODE, 4 -IN, 5 OUTN, 6 VDD, 7 GND, 8 OUTP

## HC16P015
designator U?
footprint SOP8*5.588
pins: 1 VDD, 2 OSCI/PWM3/PORTB5, 3 OSCO/PWM31/PORTB4/CMPP, 4 PORTB3/MCLRB/FLT/LVDI/VPP/CMPN, 5 PORTB2/T0CKI/PWM0/BUZ/PCK, 6 PORTB1/PWM1/LOSCO/PGD, 7 PORTB0/INT0/T1CKI/PWM2/LOSCI/PGC, 8 VSS

## HC18P110L
designator U?
footprint SOP14
pins: 1 VDD, 2 OSCI/CLKI/PORTB7, 3 OSCO/PORTB6, 4 T1G/MCLRB/PORTB5/VPP, 5 PORTB3/CCP2, 6 PORTB2/CCP1, 7 PORTB1/T0CKI/T1CKI/LOSCI, 8 PORTB0/INT0/LOSCO, 9 PORTA4/AN4/VREF, 10 PORTA3/AN3, 11 PORTA2/AN2/PCK, 12 PORTA1/AN1/PGD, 13 PORTA0/AN0/PGC, 14 VSS

## HT328
designator U?
pins: 1 NC, 2 SD, 3 LINP, 4 LINN, 5 GAIN, 6 MODE, 7 AVCC, 8 AGND, 9 GVDD, 10 NC, 11 RINN, 12 RINP, 13 NC, 14 NC, 15 PVCCR, 16 PVCCR, 17 BSPR, 18 OUTPR, 19 NC, 20 OUTNR, 21 BSNR, 22 BSNL, 23 OUTNL, 24 NC, 25 OUTPL, 26 BSPL, 27 PVCCL, 28 PVCCL

## HT7350
designator U?
footprint SOT89-3
pins: 1 GND, 2 VCC, 3 5V

## HT8692
designator U?
footprint sop16
footprint SOP16
footprint SOP16-EP
pins: 1 AGND, 2 VBAT, 3 MUCH, 4 FB, 5 LX, 6 LX, 7 DGND, 8 DGND, 9 PVDD, 10 OUT-, 11 PGND, 12 OUT+, 13 IN+, 14 IN-, 15 ABD, 16 CRTL

## HT8693
designator U?
footprint SOP8-EP
pins: 1 ABD, 2 CTRL, 3 VDD, 4 OUT-, 5 GND, 6 OUT+, 7 IN+, 8 IN-

## HT8693B
designator U?
footprint SOP8-EP
pins: 1 CTRL, 2 MUCH, 3 VDD, 4 OUT-, 5 GND, 6 OUT+, 7 IN+, 8 IN-

## HX4004
designator U?
footprint SOT-6
pins: 1 VOUT, 2 GND, 3 EN, 4 C-, 5 VIN, 6 C+

## HX-JE
designator U?
footprint SOT-6
pins: 1 VOUT, 2 GND, 3 EN, 4 C-, 5 VIN, 6 C+

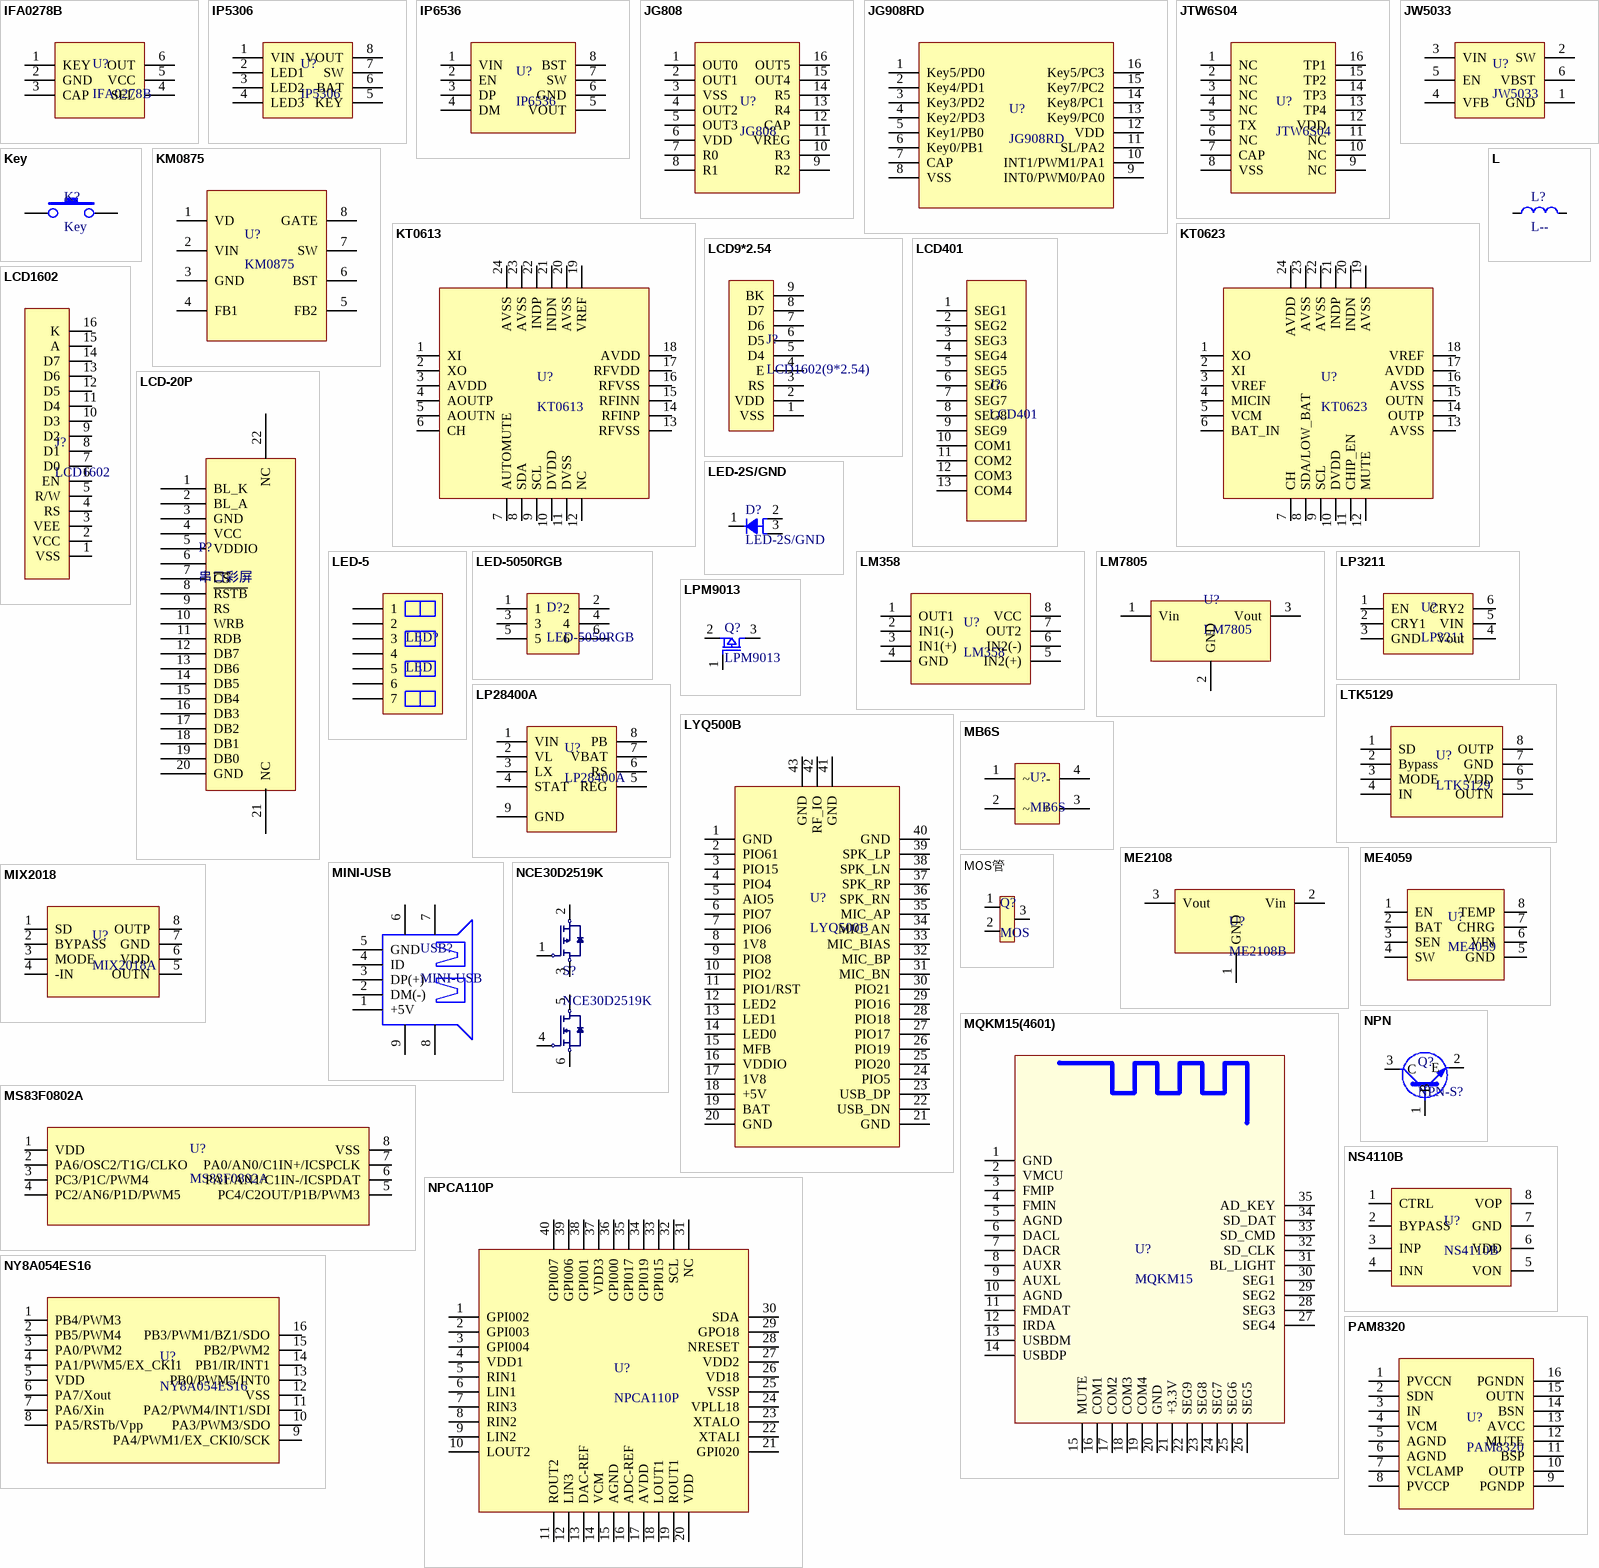
[diagram p5: symbols IFA0278B to PAM8320]

## IFA0278B
designator U?
footprint SOT-6
pins: 1 KEY, 2 GND, 3 CAP, 4 SEL, 5 VCC, 6 OUT

## IP5306
designator U?
footprint SOP8-EP
pins: 1 VIN, 2 LED1, 3 LED2, 4 LED3, 5 KEY, 6 BAT, 7 SW, 8 VOUT

## IP6536
designator U?
footprint SOP8-EP
pins: 1 VIN, 2 EN, 3 DP, 4 DM, 5 VOUT, 6 GND, 7 SW, 8 BST

## JG808
designator U?
footprint SOP16
pins: 1 OUT0, 2 OUT1, 3 VSS, 4 OUT2, 5 OUT3, 6 VDD, 7 R0, 8 R1, 9 R2, 10 R3, 11 VREG, 12 CAP, 13 R4, 14 R5, 15 OUT4, 16 OUT5

## JG908RD
designator U?
footprint SOP16
pins: 1 Key5/PD0, 2 Key4/PD1, 3 Key3/PD2, 4 Key2/PD3, 5 Key1/PB0, 6 Key0/PB1, 7 CAP, 8 VSS, 9 INT0/PWM0/PA0, 10 INT1/PWM1/PA1, 11 SL/PA2, 12 VDD, 13 Key9/PC0, 14 Key8/PC1, 15 Key7/PC2, 16 Key5/PC3

## JTW6S04
designator U?
footprint SOP16
pins: 1 NC, 2 NC, 3 NC, 4 NC, 5 TX, 6 NC, 7 CAP, 8 VSS, 9 NC, 10 NC, 11 NC, 12 VDD, 13 TP4, 14 TP3, 15 TP2, 16 TP1

## JW5033
designator U?
footprint SOT-6
pins: 1 GND, 2 SW, 3 VIN, 4 VFB, 5 EN, 6 VBST

## Key
designator K?
footprint KEY
pins: 1, 2

## KM0875
designator U?
footprint SOP8-EP
pins: 1 VD, 2 VIN, 3 GND, 4 FB1, 5 FB2, 6 BST, 7 SW, 8 GATE

## KT0613
designator U?
pins: 1 XI, 2 XO, 3 AVDD, 4 AOUTP, 5 AOUTN, 6 CH, 7 AUTOMUTE, 8 SDA, 9 SCL, 10 DVDD, 11 DVSS, 12 NC, 13 RFVSS, 14 RFINP, 15 RFINN, 16 RFVSS, 17 RFVDD, 18 AVDD, 19 VREF, 20 AVSS, 21 INDN, 22 INDP, 23 AVSS, 24 AVSS

## KT0623
designator U?
pins: 1 XO, 2 XI, 3 VREF, 4 MICIN, 5 VCM, 6 BAT_IN, 7 CH, 8 SDA/LOW_BAT, 9 SCL, 10 DVDD, 11 CHIP_EN, 12 MUTE, 13 AVSS, 14 OUTP, 15 OUTN, 16 AVSS, 17 AVDD, 18 VREF, 19 AVSS, 20 INDN, 21 INDP, 22 AVSS, 23 AVSS, 24 AVDD

## L
designator L?, comment L--
footprint L0603
pins: 1, 2

## LCD9*2.54
designator J?, comment LCD1602(9*2.54)
footprint LCD9*2.54
pins: 1 VSS, 2 VDD, 3 RS, 4 E, 5 D4, 6 D5, 7 D6, 8 D7, 9 BK

## LCD401
designator J?
footprint LCD-401
pins: 1 SEG1, 2 SEG2, 3 SEG3, 4 SEG4, 5 SEG5, 6 SEG6, 7 SEG7, 8 SEG8, 9 SEG9, 10 COM1, 11 COM2, 12 COM3, 13 COM4

## LCD1602
designator J?
footprint LCD16X2.54
pins: 1 VSS, 2 VCC, 3 VEE, 4 RS, 5 R/W, 6 EN, 7 D0, 8 D1, 9 D2, 10 D3, 11 D4, 12 D5, 13 D6, 14 D7, 15 A, 16 K

## LCD-20P
designator P?, comment 串口彩屏
footprint FFC-P20-1MM
pins: 1 BL_K, 2 BL_A, 3 GND, 4 VCC, 5 VDDIO, 6, 7 ~{CS}, 8 ~{RSTB}, 9 RS, 10 WRB, 11 RDB, 12 DB7, 13 DB6, 14 DB5, 15 DB4, 16 DB3, 17 DB2, 18 DB1, 19 DB0, 20 GND, 21 NC, 22 NC

## LED-2S/GND
designator D?
footprint LED-3
pins: 1, 2, 3

## LED-5
designator LED?, comment LED
footprint 8888
pins: 1, 2, 3, 4, 5, 6, 7

## LED-5050RGB
designator D?
footprint LED-5050RGB
pins: 1, 2, 3, 4, 5, 6

## LM358
designator U?
footprint SOP8*5.588
pins: 1 OUT1, 2 IN1(-), 3 IN1(+), 4 GND, 5 IN2(+), 6 IN2(-), 7 OUT2, 8 VCC

## LM7805
designator U?
footprint Model Name (Footprint not found)
footprint LM7805
footprint 78M05
pins: 1 Vin, 2 GND, 3 Vout

## LP3211
designator U?
footprint SOT-6
pins: 1 EN, 2 CRY1, 3 GND, 4 Vout, 5 VIN, 6 CRY2

## LP28400A
designator U?
footprint SOP8-EP
pins: 1 VIN, 2 VL, 3 LX, 4 STAT, 5 REG, 6 RS, 7 VBAT, 8 PB, 9 GND

## LPM9013
designator Q?
footprint SOT23
pins: 1, 2, 3

## LTK5129
designator U?
footprint SOP8-EP
pins: 1 SD, 2 Bypass, 3 MODE, 4 IN, 5 OUTN, 6 VDD, 7 GND, 8 OUTP

## LYQ500B
designator U?
footprint LYQ500B
pins: 1 GND, 2 PIO61, 3 PIO15, 4 PIO4, 5 AIO5, 6 PIO7, 7 PIO6, 8 1V8, 9 PIO8, 10 PIO2, 11 PIO1/RST, 12 LED2, 13 LED1, 14 LED0, 15 MFB, 16 VDDIO, 17 1V8, 18 +5V, 19 BAT, 20 GND, 21 GND, 22 USB_DN, 23 USB_DP, 24 PIO5, 25 PIO20, 26 PIO19, 27 PIO17, 28 PIO18, 29 PIO16, 30 PIO21, 31 MIC_BN, 32 MIC_BP, 33 MIC_BIAS, 34 MIC_AN, 35 MIC_AP, 36 SPK_RN, 37 SPK_RP, 38 SPK_LN, 39 SPK_LP, 40 GND, 41 GND, 42 RF_IO, 43 GND

## MB6S
designator U?
footprint MB6S
pins: 1 ~, 2 ~, 3 +, 4 -

## ME2108
designator U?, comment ME2108B
pins: 1 GND, 2 Vin, 3 Vout

## ME4059
designator U?
footprint SOP8-EP
pins: 1 EN, 2 BAT, 3 SEN, 4 SW, 5 GND, 6 VIN, 7 CHRG, 8 TEMP

## MINI-USB
designator USB?
footprint MI-USB
pins: 1 +5V, 2 DM(-), 3 DP(+), 4 ID, 5 GND, 6, 7, 8, 9

## MIX2018
designator U?, comment MIX2018A
footprint SOP8-EP
pins: 1 SD, 2 BYPASS, 3 MODE, 4 -IN, 5 OUTN, 6 VDD, 7 GND, 8 OUTP

## MOS管
designator Q?, comment MOS
footprint SOT-3
pins: 1, 2, 3

## MQKM15(4601)
designator U?, comment MQKM15
pins: 1 GND, 2 VMCU, 3 FMIP, 4 FMIN, 5 AGND, 6 DACL, 7 DACR, 8 AUXR, 9 AUXL, 10 AGND, 11 FMDAT, 12 IRDA, 13 USBDM, 14 USBDP, 15 MUTE, 16 COM1, 17 COM2, 18 COM3, 19 COM4, 20 GND, 21 +3.3V, 22 SEG9, 23 SEG8, 24 SEG7, 25 SEG6, 26 SEG5, 27 SEG4, 28 SEG3, 29 SEG2, 30 SEG1, 31 BL_LIGHT, 32 SD_CLK, 33 SD_CMD, 34 SD_DAT, 35 AD_KEY

## MS83F0802A
designator U?
pins: 1 VDD, 2 PA6/OSC2/T1G/CLKO, 3 PC3/P1C/PWM4, 4 PC2/AN6/P1D/PWM5, 5 PC4/C2OUT/P1B/PWM3, 6 PA1/AN1/C1IN-/ICSPDAT, 7 PA0/AN0/C1IN+/ICSPCLK, 8 VSS

## NCE30D2519K
designator S?
footprint TO252-5L
pins: 1 G1, 2 S1, 3 D1, 4 G2, 5 D2, 6 S2

## NPCA110P
designator U?
pins: 1 GPI002, 2 GPI003, 3 GPI004, 4 VDD1, 5 RIN1, 6 LIN1, 7 RIN3, 8 RIN2, 9 LIN2, 10 LOUT2, 11 ROUT2, 12 LIN3, 13 DAC-REF, 14 VCM, 15 AGND, 16 ADC-REF, 17 AVDD, 18 LOUT1, 19 ROUT1, 20 VDD, 21 GPI020, 22 XTALI, 23 XTALO, 24 VPLL18, 25 VSSP, 26 VD18, 27 VDD2, 28 NRESET, 29 GPO18, 30 SDA, 31 NC, 32 SCL, 33 GPI015, 34 GPI019, 35 GPI017, 36 GPI000, 37 VDD3, 38 GPI001, 39 GPI006, 40 GPI007

## NPN
designator Q?, comment NPN-S?
footprint SOT23
pins: 1 B, 2 E, 3 C

## NS4110B
designator U?
footprint SOP8*5.588
pins: 1 CTRL, 2 BYPASS, 3 INP, 4 INN, 5 VON, 6 VDD, 7 GND, 8 VOP

## NY8A054ES16
designator U?
footprint SOP16
pins: 1 PB4/PWM3, 2 PB5/PWM4, 3 PA0/PWM2, 4 PA1/PWM5/EX_CKI1, 5 VDD, 6 PA7/Xout, 7 PA6/Xin, 8 PA5/RSTb/Vpp, 9 PA4/PWM1/EX_CKI0/SCK, 10 PA3/PWM3/SDO, 11 PA2/PWM4/INT1/SDI, 12 VSS, 13 PB0/PWM5/INT0, 14 PB1/IR/INT1, 15 PB2/PWM2, 16 PB3/PWM1/BZ1/SDO

## PAM8320
designator U?
pins: 1 PVCCN, 2 SDN, 3 IN, 4 VCM, 5 AGND, 6 AGND, 7 VCLAMP, 8 PVCCP, 9 PGNDP, 10 OUTP, 11 BSP, 12 MUTE, 13 AVCC, 14 BSN, 15 OUTN, 16 PGNDN

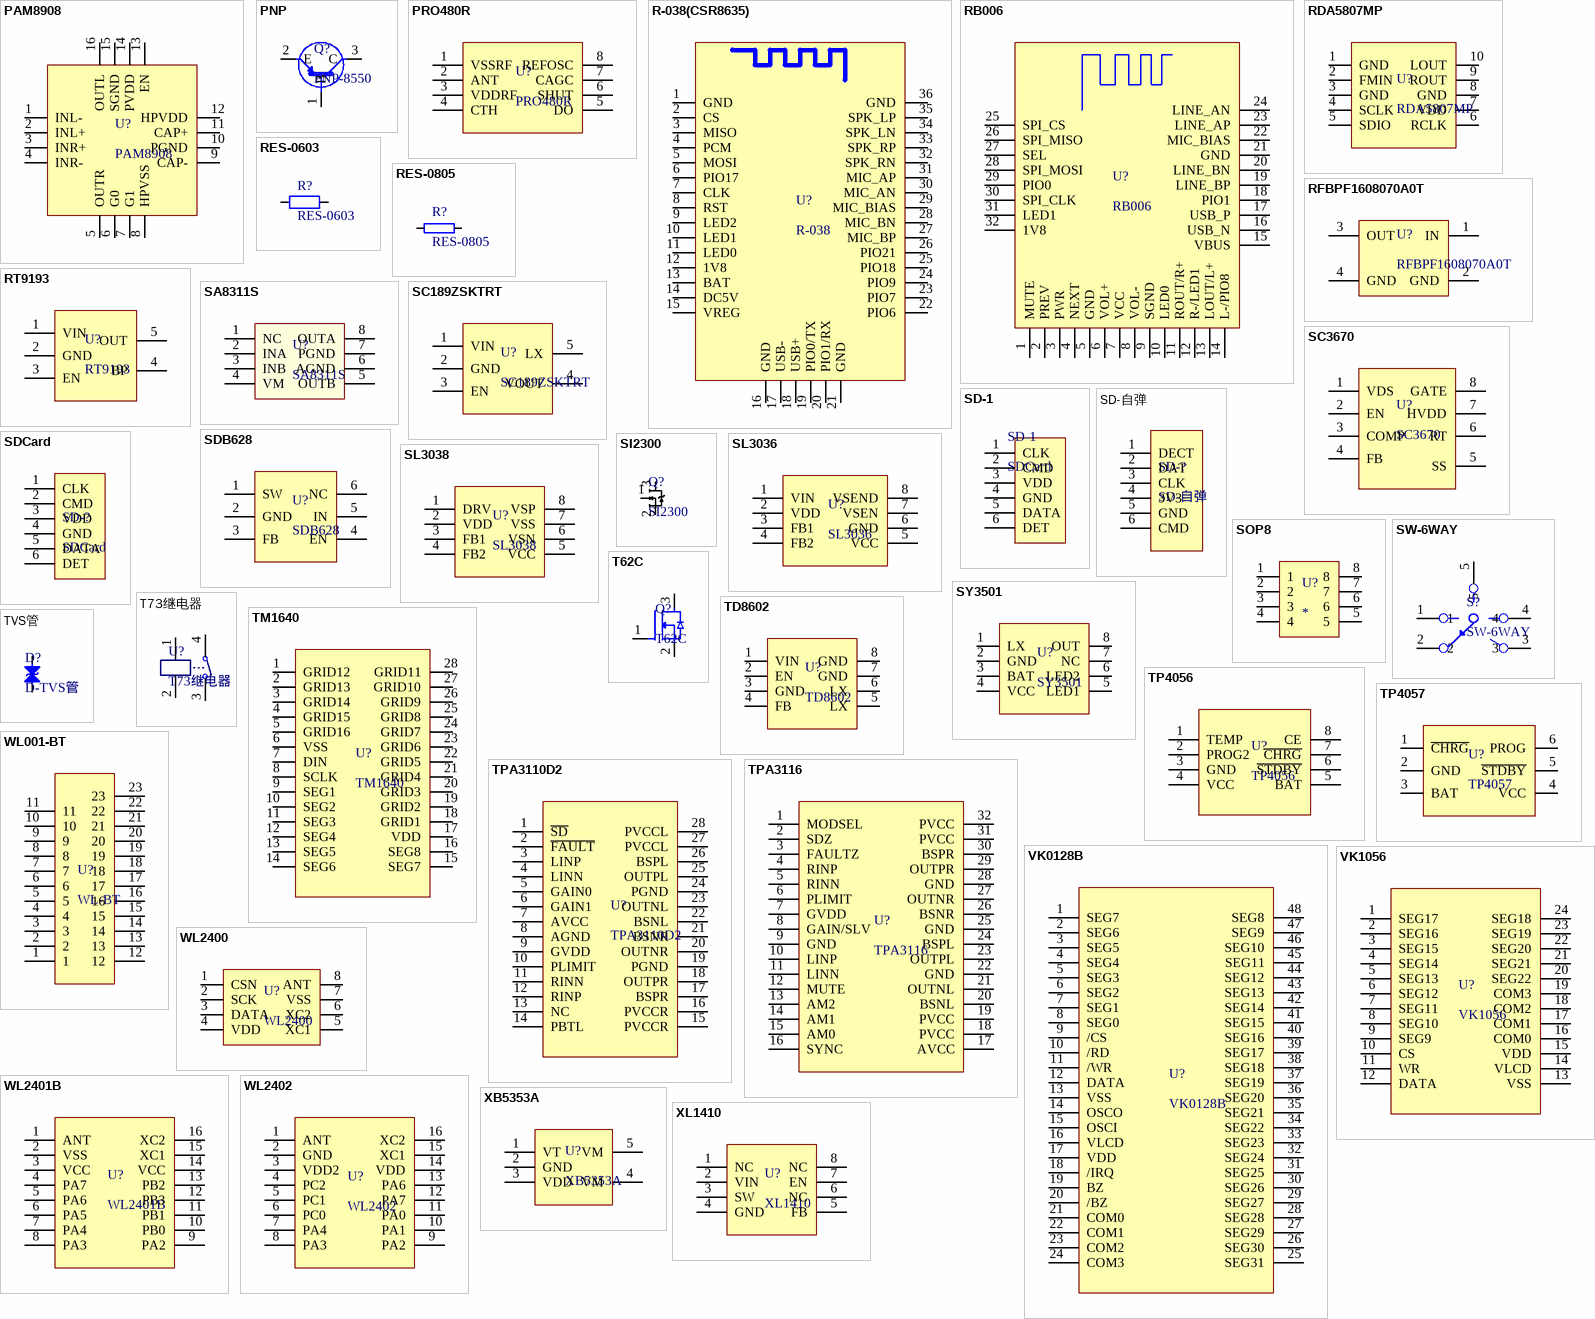
[diagram p6: symbols PAM8908 to XL1410]

## PAM8908
designator U?
pins: 1 INL-, 2 INL+, 3 INR+, 4 INR-, 5 OUTR, 6 G0, 7 G1, 8 HPVSS, 9 CAP-, 10 PGND, 11 CAP+, 12 HPVDD, 13 EN, 14 PVDD, 15 SGND, 16 OUTL

## PNP
designator Q?, comment PNP-8550
footprint SOT23
pins: 1 B, 2 E, 3 C

## PRO480R
designator U?
footprint SOP8*5.588
pins: 1 VSSRF, 2 ANT, 3 VDDRF, 4 CTH, 5 DO, 6 SHUT, 7 CAGC, 8 REFOSC

## R-038(CSR8635)
designator U?, comment R-038
pins: 1 GND, 2 CS, 3 MISO, 4 PCM, 5 MOSI, 6 PIO17, 7 CLK, 8 RST, 9 LED2, 10 LED1, 11 LED0, 12 1V8, 13 BAT, 14 DC5V, 15 VREG, 16 GND, 17 USB-, 18 USB+, 19 PIO0/TX, 20 PIO1/RX, 21 GND, 22 PIO6, 23 PIO7, 24 PIO9, 25 PIO18, 26 PIO21, 27 MIC_BP, 28 MIC_BN, 29 MIC_BIAS, 30 MIC_AN, 31 MIC_AP, 32 SPK_RN, 33 SPK_RP, 34 SPK_LN, 35 SPK_LP, 36 GND

## RB006
designator U?
footprint RB006
pins: 1 MUTE, 2 PREV, 3 PWR, 4 NEXT, 5 GND, 6 VOL+, 7 VCC, 8 VOL-, 9 SGND, 10 LED0, 11 ROUT/R+, 12 R-/LED1, 13 LOUT/L+, 14 L-/PIO8, 15 VBUS, 16 USB_N, 17 USB_P, 18 PIO1, 19 LINE_BP, 20 LINE_BN, 21 GND, 22 MIC_BIAS, 23 LINE_AP, 24 LINE_AN, 25 SPI_CS, 26 SPI_MISO, 27 SEL, 28 SPI_MOSI, 29 PIO0, 30 SPI_CLK, 31 LED1, 32 1V8

## RDA5807MP
designator U?
footprint MSOP10
pins: 1 GND, 2 FMIN, 3 GND, 4 SCLK, 5 SDIO, 6 RCLK, 7 VDD, 8 GND, 9 ROUT, 10 LOUT

## RES-0603
designator R?
footprint R0603
pins: 1, 2

## RES-0805
designator R?
footprint R0805
pins: 1, 2

## RFBPF1608070A0T
designator U?
footprint BPF1608A0T
pins: 1 IN, 2 GND, 3 OUT, 4 GND

## RT9193
designator U?
pins: 1 VIN, 2 GND, 3 EN, 4 BP, 5 OUT

## SA8311S
designator U?
pins: 1 NC, 2 INA, 3 INB, 4 VM, 5 OUTB, 6 AGND, 7 PGND, 8 OUTA

## SC189ZSKTRT
designator U?
pins: 1 VIN, 2 GND, 3 EN, 4 VOUT, 5 LX

## SC3670
designator U?
pins: 1 VDS, 2 EN, 3 COMP, 4 FB, 5 SS, 6 RT, 7 HVDD, 8 GATE

## SD-1
designator SD-1, comment SDCard
footprint SD1
footprint SD1
footprint SD-2
pins: 1 CLK, 2 CMD, 3 VDD, 4 GND, 5 DATA, 6 DET

## SD-自弹
designator SD-?
footprint SD-3
pins: 1 DECT, 2 DAT, 3 CLK, 4 3V3, 5 GND, 6 CMD

## SDB628
designator U?
footprint SOT-6
pins: 1 SW, 2 GND, 3 FB, 4 EN, 5 IN, 6 NC

## SDCard
designator SD-?
footprint SD1
footprint SD-2
pins: 1 CLK, 2 CMD, 3 VDD, 4 GND, 5 DATA, 6 DET

## SI2300
designator Q?
pins: 1, 2, 3

## SL3036
designator U?
footprint SOP8-EP
pins: 1 VIN, 2 VDD, 3 FB1, 4 FB2, 5 VCC, 6 GND, 7 VSEN, 8 VSEND

## SL3038
designator U?
footprint SOP8-EP
pins: 1 DRV, 2 VDD, 3 FB1, 4 FB2, 5 VCC, 6 VSN, 7 VSS, 8 VSP

## SOP8
designator U?
footprint SOP8*5.588
pins: 1, 2, 3, 4, 5, 6, 7, 8

## SW-6WAY
designator S?
footprint SW-6WAY
pins: 1, 2, 3, 4, 5

## SY3501
designator U?
footprint SOP8-EP
footprint SOP8*5.588
footprint SOP8-EP
pins: 1 LX, 2 GND, 3 BAT, 4 VCC, 5 LED1, 6 LED2, 7 NC, 8 OUT

## T62C
designator Q?
pins: 1, 2, 3

## T73继电器
designator U?
footprint T73继电器
pins: 1, 2, 3, 4

## TD8602
designator U?
pins: 1 VIN, 2 EN, 3 GND, 4 FB, 5 LX, 6 LX, 7 GND, 8 GND

## TM1640
designator U?
footprint SOP28
pins: 1 GRID12, 2 GRID13, 3 GRID14, 4 GRID15, 5 GRID16, 6 VSS, 7 DIN, 8 SCLK, 9 SEG1, 10 SEG2, 11 SEG3, 12 SEG4, 13 SEG5, 14 SEG6, 15 SEG7, 16 SEG8, 17 VDD, 18 GRID1, 19 GRID2, 20 GRID3, 21 GRID4, 22 GRID5, 23 GRID6, 24 GRID7, 25 GRID8, 26 GRID9, 27 GRID10, 28 GRID11

## TP4056
designator U?
footprint SOP8-EP
pins: 1 TEMP, 2 PROG2, 3 GND, 4 VCC, 5 BAT, 6 ~{STDBY}, 7 ~{CHRG}, 8 CE

## TP4057
designator U?
footprint SOT-6
pins: 1 ~{CHRG}, 2 GND, 3 BAT, 4 VCC, 5 ~{STDBY}, 6 PROG

## TPA3110D2
designator U?
footprint TPA3110D2
pins: 1 ~{SD}, 2 ~{FAULT}, 3 LINP, 4 LINN, 5 GAIN0, 6 GAIN1, 7 AVCC, 8 AGND, 9 GVDD, 10 PLIMIT, 11 RINN, 12 RINP, 13 NC, 14 PBTL, 15 PVCCR, 16 PVCCR, 17 BSPR, 18 OUTPR, 19 PGND, 20 OUTNR, 21 BSNR, 22 BSNL, 23 OUTNL, 24 PGND, 25 OUTPL, 26 BSPL, 27 PVCCL, 28 PVCCL

## TPA3116
designator U?
pins: 1 MODSEL, 2 SDZ, 3 FAULTZ, 4 RINP, 5 RINN, 6 PLIMIT, 7 GVDD, 8 GAIN/SLV, 9 GND, 10 LINP, 11 LINN, 12 MUTE, 13 AM2, 14 AM1, 15 AM0, 16 SYNC, 17 AVCC, 18 PVCC, 19 PVCC, 20 BSNL, 21 OUTNL, 22 GND, 23 OUTPL, 24 BSPL, 25 GND, 26 BSNR, 27 OUTNR, 28 GND, 29 OUTPR, 30 BSPR, 31 PVCC, 32 PVCC

## TVS管
designator D?, comment D-TVS管
footprint SMA
pins: 1, 2

## VK0128B
designator U?
pins: 1 SEG7, 2 SEG6, 3 SEG5, 4 SEG4, 5 SEG3, 6 SEG2, 7 SEG1, 8 SEG0, 9 /CS, 10 /RD, 11 /WR, 12 DATA, 13 VSS, 14 OSCO, 15 OSCI, 16 VLCD, 17 VDD, 18 /IRQ, 19 BZ, 20 /BZ, 21 COM0, 22 COM1, 23 COM2, 24 COM3, 25 SEG31, 26 SEG30, 27 SEG29, 28 SEG28, 29 SEG27, 30 SEG26, 31 SEG25, 32 SEG24, 33 SEG23, 34 SEG22, 35 SEG21, 36 SEG20, 37 SEG19, 38 SEG18, 39 SEG17, 40 SEG16, 41 SEG15, 42 SEG14, 43 SEG13, 44 SEG12, 45 SEG11, 46 SEG10, 47 SEG9, 48 SEG8

## VK1056
designator U?
footprint SSOP24
pins: 1 SEG17, 2 SEG16, 3 SEG15, 4 SEG14, 5 SEG13, 6 SEG12, 7 SEG11, 8 SEG10, 9 SEG9, 10 CS, 11 WR, 12 DATA, 13 VSS, 14 VLCD, 15 VDD, 16 COM0, 17 COM1, 18 COM2, 19 COM3, 20 SEG22, 21 SEG21, 22 SEG20, 23 SEG19, 24 SEG18

## WL001-BT
designator U?, comment WL-BT
footprint WL001-BT
pins: 1, 2, 3, 4, 5, 6, 7, 8, 9, 10, 11, 12, 13, 14, 15, 16, 17, 18, 19, 20, 21, 22, 23

## WL2400
designator U?
footprint SOP8*5.588
pins: 1 CSN, 2 SCK, 3 DATA, 4 VDD, 5 XC1, 6 XC2, 7 VSS, 8 ANT

## WL2401B
designator U?
footprint SOP16
pins: 1 ANT, 2 VSS, 3 VCC, 4 PA7, 5 PA6, 6 PA5, 7 PA4, 8 PA3, 9 PA2, 10 PB0, 11 PB1, 12 PB3, 13 PB2, 14 VCC, 15 XC1, 16 XC2

## WL2402
designator U?
footprint SOP16
pins: 1 ANT, 2 GND, 3 VDD2, 4 PC2, 5 PC1, 6 PC0, 7 PA4, 8 PA3, 9 PA2, 10 PA1, 11 PA0, 12 PA7, 13 PA6, 14 VDD, 15 XC1, 16 XC2

## XB5353A
designator U?
footprint SOT23-5
pins: 1 VT, 2 GND, 3 VDD, 4 VM, 5 VM

## XL1410
designator U?
footprint SOP8*5.588
pins: 1 NC, 2 VIN, 3 SW, 4 GND, 5 FB, 6 NC, 7 EN, 8 NC

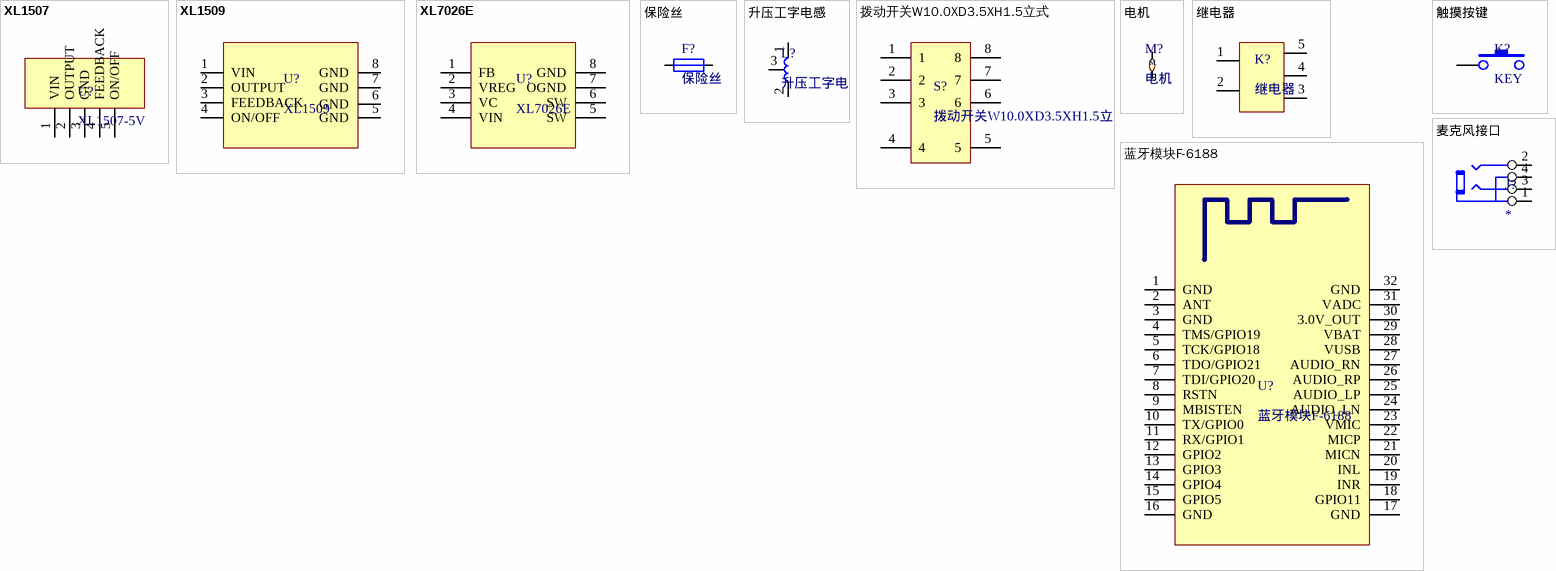
[diagram p7: symbols XL1507 to 麦克风接口]

## XL1507
designator U?, comment XL1507-5V
footprint TO252-5L
pins: 1 VIN, 2 OUTPUT, 3 GND, 4 FEEDBACK, 5 ON/OFF

## XL1509
designator U?
footprint SOP8*5.588
pins: 1 VIN, 2 OUTPUT, 3 FEEDBACK, 4 ON/OFF, 5 GND, 6 GND, 7 GND, 8 GND

## XL7026E
designator U?
footprint SOP8-EP
pins: 1 FB, 2 VREG, 3 VC, 4 VIN, 5 SW, 6 SW, 7 OGND, 8 GND

## 保险丝
designator F?
pins: 1, 2

## 升压工字电感
designator L?
pins: 1, 2, 3

## 拨动开关W10.0XD3.5XH1.5立式
designator S?
footprint 拨动开关W10.0XD3.5XH1.5立式
pins: 1, 2, 3, 4, 5, 6, 7, 8

## 电机
designator M?
pins: 1 M, 2 M

## 继电器
designator K?
pins: 1, 2, 3, 4, 5

## 蓝牙模块F-6188
designator U?
footprint 蓝牙模块F-6188
pins: 1 GND, 2 ANT, 3 GND, 4 TMS/GPIO19, 5 TCK/GPIO18, 6 TDO/GPIO21, 7 TDI/GPIO20, 8 RSTN, 9 MBISTEN, 10 TX/GPIO0, 11 RX/GPIO1, 12 GPIO2, 13 GPIO3, 14 GPIO4, 15 GPIO5, 16 GND, 17 GND, 18 GPIO11, 19 INR, 20 INL, 21 MICN, 22 MICP, 23 VMIC, 24 AUDIO_LN, 25 AUDIO_LP, 26 AUDIO_RP, 27 AUDIO_RN, 28 VUSB, 29 VBAT, 30 3.0V_OUT, 31 VADC, 32 GND

## 触摸按键
designator K?, comment KEY
footprint 触摸按键
pins: 1

## 麦克风接口
designator J?
pins: 1, 2, 3, 4